# Altium schematic symbol library amirlib.SchLib: 361 symbols (part 1 of 2)
Pins are listed as number, name and electrical type; pins without a type are passive.

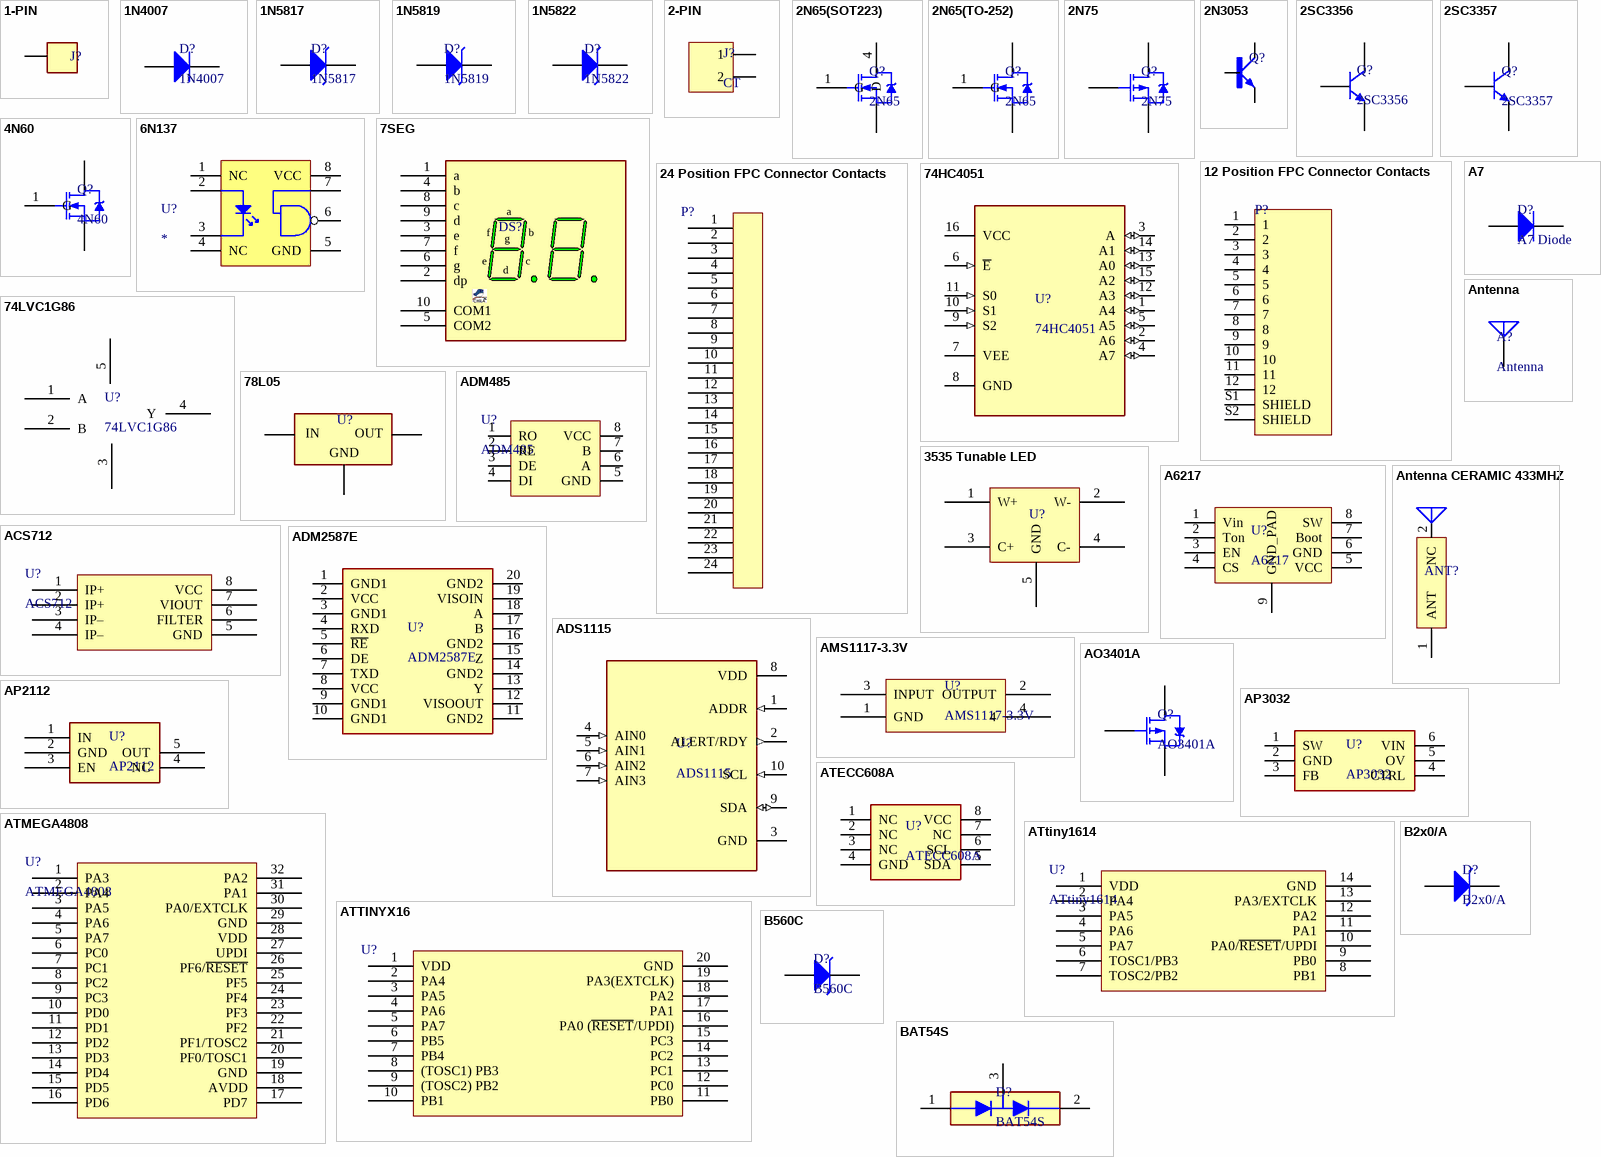
[diagram p0: symbols 1-PIN to BAT54S]

## 1-PIN
designator J?  (value not drawn)
footprint 1_PIN
footprint 1PIN_AC
footprint smart terminal
footprint SMDPAD2LAYER
pins: 1

## 1N4007
designator D?
footprint DO-41
footprint DO-214
footprint SMA
pins: 1 A, 2 K

## 1N5817
designator D?
Diode Schottky 20 V 1A
footprint DO-214
footprint SOD-123
pins: 1, 2

## 1N5819
designator D?
Diode Schottky 40 V 1A
footprint DO-214
footprint SOD-123
pins: 1, 2

## 1N5822
designator D?
Surface Mount Schottky Barrier Rectifier
footprint SMA
pins: 1, 2

## 2-PIN
designator J?, comment CT
footprint 2PIN
pins: 1, 2

## 2N65(SOT223)
designator Q?, comment 2N65
N CHANNEL POWER MOSFET
footprint SOT223
pins: 1 G, 2 D, 3 S, 4 D

## 2N65(TO-252)
designator Q?, comment 2N65
N CHANNEL POWER MOSFET
footprint TO-252
pins: 1 G, 2 D, 3 S

## 2N75
designator Q?
footprint TO-252
pins: 1 G, 2 D, 3 S

## 2N3053
designator Q?  (value not drawn)
footprint 2N3053
pins: 1 E, 2 B, 3 C

## 2SC3356
designator Q?
HIGH FREQUENCY LOW / NOISE AMPLIFIER
footprint SOT23
pins: 1 B, 2 E, 3 C

## 2SC3357
designator Q?
NPN SILICON RF TRANSISTOR
footprint SOT89-3
pins: 1 B, 2 C, 3 E

## 4N60
designator Q?
N CHANNEL POWER MOSFET
footprint TO-252
pins: 1 G, 2 D, 3 S

## 6N137
designator U?
High Speed OptocouplerN 10 MBd
footprint 6N137
pins: 1 NC, 2 A, 3 K, 4 NC, 5 GND, 6 Vo, 7 Ve, 8 VCC

## 7SEG
designator DS?  (value not drawn)
VALUE: 7SEG COMMON ANODE; SIZE: 0.36 Inch
footprint 7SEG (Footprint not found)
footprint 7Seg Up
pins: 1 a, 2 dp, 3 e, 4 b, 5 COM2, 6 g, 7 f, 8 c, 9 d, 10 COM1

## 12 Position FPC Connector Contacts
designator P?  (value not drawn)
footprint 12 position fpc connector
pins: 1, 2, 3, 4, 5, 6, 7, 8, 9, 10, 11, 12, S1 SHIELD, S2 SHIELD

## 24 Position FPC Connector Contacts
designator P?  (value not drawn)
footprint 24 Position FPC Connector Contacts(0.5mm)
pins: 1, 2, 3, 4, 5, 6, 7, 8, 9, 10, 11, 12, 13, 14, 15, 16, 17, 18, 19, 20, 21, 22, 23, 24

## 74HC4051
designator U?
Analog Multiplexer and Demultiplexer
footprint SOIC16
pins: 1 A4 (io), 2 A6 (io), 3 A (io), 4 A7 (io), 5 A5 (io), 6 ~{E} (in), 7 VEE (power), 8 GND, 9 S2 (in), 10 S1 (in), 11 S0 (in), 12 A3 (io), 13 A0 (io), 14 A1 (io), 15 A2 (io), 16 VCC (power)

## 74LVC1G86
designator U?
SINGLE 2 INPUT EXCLUSIVE OR GATE
footprint SOT-353
pins: 1 A, 2 B, 3 GND, 4 Y, 5 VCC

## 78L05
designator U?  (value not drawn)
VALUE: 78L05; SIZE: SOT-89-3
footprint SOT89-3
pins: 1 OUT, 2 GND, 3 IN

## 3535 Tunable LED
designator U?  (value not drawn)
footprint LEDDUAL
pins: 1 W+, 2 W-, 3 C+, 4 C-, 5 GND

## A7
designator D?, comment A7 Diode
footprint SOD-123FL
pins: 1 A, 2 K

## A6217
designator U?
Automotive-Grade, Constant-Current / PWM Dimmable Buck Regulator LED Driver
footprint ESOP-8
pins: 1 Vin, 2 Ton, 3 EN, 4 CS, 5 VCC, 6 GND, 7 Boot, 8 SW, 9 GND_PAD

## ACS712
designator U?
Fully Integrated, Hall Effect-Based Linear Current Sensor with 2.1 kVRMS Voltage Isolation and a Low-Resistance Current Conductor
footprint SOIC8
pins: 1 IP+, 2 IP+, 3 IP–, 4 IP–, 5 GND, 6 FILTER, 7 VIOUT, 8 VCC

## ADM485
designator U?
5V Low Power / EIA RS-485 Transceiver
footprint SOIC8
pins: 1 RO, 2 RE, 3 DE, 4 DI, 5 GND, 6 A, 7 B, 8 VCC

## ADM2587E
designator U?
Signal and Power Isolated RS-485 / Transceiver with ±15 kV ESD Protection
footprint SOIC20
pins: 1 GND1, 2 VCC, 3 GND1, 4 RXD, 5 ~{RE}, 6 DE, 7 TXD, 8 VCC, 9 GND1, 10 GND1, 11 GND2, 12 VISOOUT, 13 Y, 14 GND2, 15 Z, 16 GND2, 17 B, 18 A, 19 VISOIN, 20 GND2

## ADS1115
designator U?
ADS111x Ultra-Small, Low-Power, I2C-Compatible, 860-SPS, 16-Bit ADCs / With Internal Reference, Oscillator, and Programmable Comparator
footprint VSSOP-10
pins: 1 ADDR (in), 2 ALERT/RDY (out), 3 GND (power), 4 AIN0 (in), 5 AIN1 (in), 6 AIN2 (in), 7 AIN3 (in), 8 VDD (power), 9 SDA (io), 10 SCL (in)

## AMS1117-3.3V
designator U?
1A LOW DROPOUT VOLTAGE REGULATOR SOT-223; VALUE: AMS1117-3.3V; SIZE: SOT-223
footprint SOT223
pins: 1 GND, 2 OUTPUT, 3 INPUT, 4

## Antenna
designator A?
footprint ANT
footprint ANT 2
footprint ANT 3
footprint ANT 4
pins: 1 A

## Antenna CERAMIC 433MHZ
designator ANT?  (value not drawn)
footprint ANT CERAMIC 433MHZ
pins: 1 ANT, 2 NC

## AO3401A
designator Q?
30V P-Channel MOSFET; VALUE: IRLML 2803; SIZE: SOT-23
footprint SOT23
pins: 1 G, 2 S, 3 D

## AP2112
designator U?
600mA CMOS LDO REGULATOR WITH ENABLE
footprint SOT-753
pins: 1 IN, 2 GND, 3 EN, 4 NC, 5 OUT

## AP3032
designator U?
WHITE LED STEP-UP CONVERTER
footprint SOT23-6
pins: 1 SW, 2 GND, 3 FB, 4 CTRL, 5 OV, 6 VIN

## ATECC608A
designator U?
CryptoAuthentication™ Device
footprint SOP-8
pins: 1 NC, 2 NC, 3 NC, 4 GND, 5 SDA, 6 SCL, 7 NC, 8 VCC

## ATMEGA4808
designator U?
AVR MCU
footprint TQFP-32
footprint QFN-32(5X5MM)
pins: 1 PA3, 2 PA4, 3 PA5, 4 PA6, 5 PA7, 6 PC0, 7 PC1, 8 PC2, 9 PC3, 10 PD0, 11 PD1, 12 PD2, 13 PD3, 14 PD4, 15 PD5, 16 PD6, 17 PD7, 18 AVDD, 19 GND, 20 PF0/TOSC1, 21 PF1/TOSC2, 22 PF2, 23 PF3, 24 PF4, 25 PF5, 26 PF6/~{RESET}, 27 UPDI, 28 VDD, 29 GND, 30 PA0/EXTCLK, 31 PA1, 32 PA2

## ATtiny1614
designator U?
footprint SOP-14
pins: 1 VDD, 2 PA4, 3 PA5, 4 PA6, 5 PA7, 6 TOSC1/PB3, 7 TOSC2/PB2, 8 PB1, 9 PB0, 10 PA0/~{RESET}/UPDI, 11 PA1, 12 PA2, 13 PA3/EXTCLK, 14 GND

## ATTINYX16
designator U?, comment ATTINY816  (value not drawn)
footprint SOIC20
pins: 1 VDD, 2 PA4, 3 PA5, 4 PA6, 5 PA7, 6 PB5, 7 PB4, 8 (TOSC1) PB3, 9 (TOSC2) PB2, 10 PB1, 11 PB0, 12 PC0, 13 PC1, 14 PC2, 15 PC3, 16 PA0 (~{RESET}/UPDI), 17 PA1, 18 PA2, 19 PA3(EXTCLK), 20 GND

## B2x0/A
designator D?
2.0A SURFACE MOUNT SCHOTTKY BARRIER RECTIFIER
footprint DO-214
footprint SMA
pins: 1, 2

## B560C
designator D?
60V 5.0A SURFACE MOUNT SCHOTTKY BARRIER RECTIFIER
footprint SMC
pins: 1, 2

## BAT54S
designator D?
Small Signal Schottky Diodes,  Dual
footprint SOT23
pins: 1, 2, 3

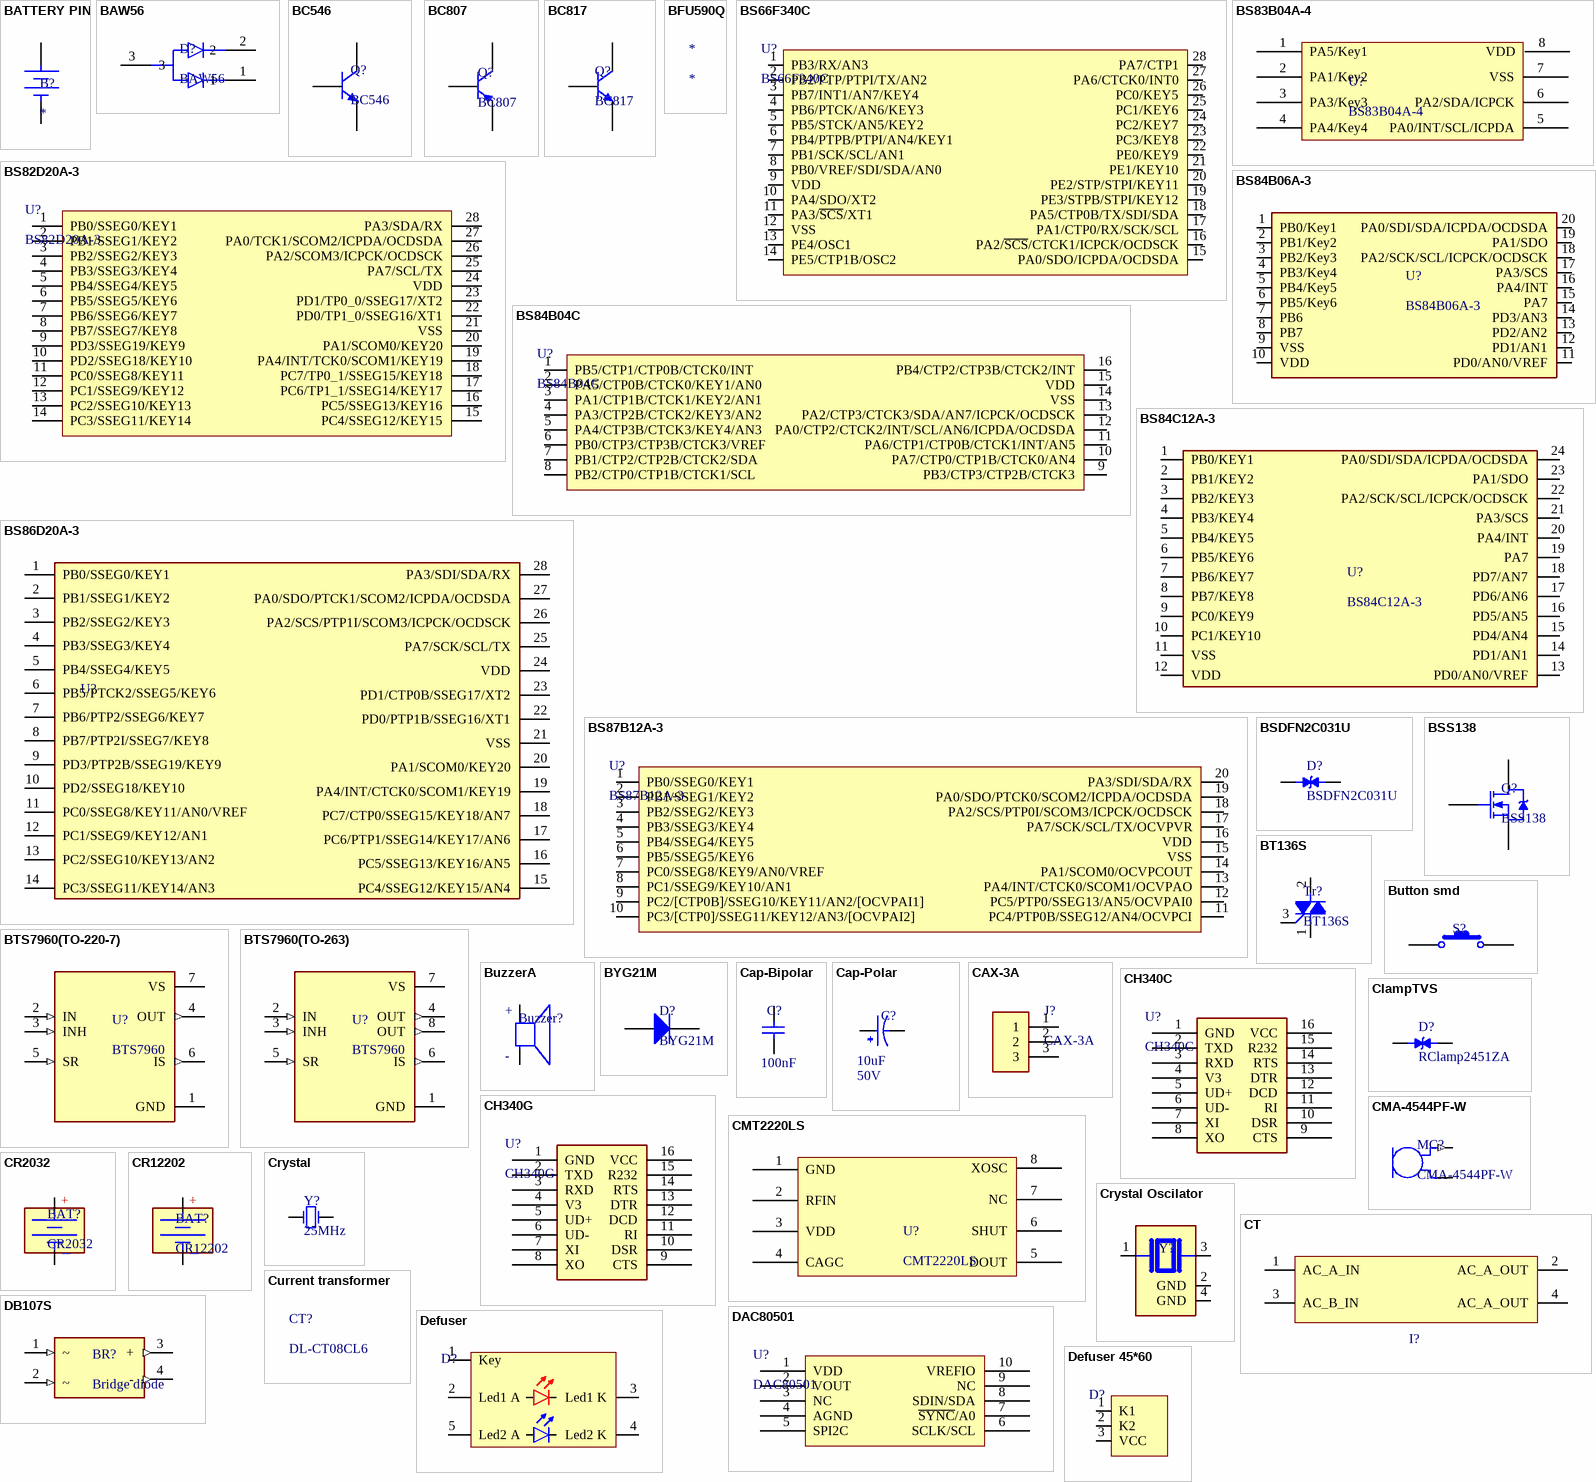
[diagram p1: symbols BATTERY PIN to Defuser 45*60]

## BATTERY PIN
designator B?
footprint BATTERY
pins: 1 +, 2

## BAW56
designator D?
Small Signal Switching Diode, Dual
footprint SOT23
pins: 1, 2, 3

## BC546
designator Q?
footprint TO-92
pins: 1 C, 2 B, 3 E

## BC807
designator Q?
footprint SOT23
pins: 1 B, 2 E, 3 C

## BC817
designator Q?
footprint SOT23
pins: 1 B, 2 E, 3 C

## BFU590Q
designator *

## BS66F340C
designator U?
Enhanced Touch A/D Flash MCU
footprint SSOP-28
pins: 1 PB3/RX/AN3, 2 PB2/PTP/PTPI/TX/AN2, 3 PB7/INT1/AN7/KEY4, 4 PB6/PTCK/AN6/KEY3, 5 PB5/STCK/AN5/KEY2, 6 PB4/PTPB/PTPI/AN4/KEY1, 7 PB1/SCK/SCL/AN1, 8 PB0/VREF/SDI/SDA/AN0, 9 VDD, 10 PA4/SDO/XT2, 11 PA3/~{SCS}/XT1, 12 VSS, 13 PE4/OSC1, 14 PE5/CTP1B/OSC2, 15 PA0/SDO/ICPDA/OCDSDA, 16 PA2/~{SCS}/CTCK1/ICPCK/OCDSCK, 17 PA1/CTP0/RX/SCK/SCL, 18 PA5/CTP0B/TX/SDI/SDA, 19 PE3/STPB/STPI/KEY12, 20 PE2/STP/STPI/KEY11, 21 PE1/KEY10, 22 PE0/KEY9, 23 PC3/KEY8, 24 PC2/KEY7, 25 PC1/KEY6, 26 PC0/KEY5, 27 PA6/CTCK0/INT0, 28 PA7/CTP1

## BS82D20A-3
designator U?
Touch Flash MCU with LED/LCD Driver
footprint SSOP-28
pins: 1 PB0/SSEG0/KEY1, 2 PB1/SSEG1/KEY2, 3 PB2/SSEG2/KEY3, 4 PB3/SSEG3/KEY4, 5 PB4/SSEG4/KEY5, 6 PB5/SSEG5/KEY6, 7 PB6/SSEG6/KEY7, 8 PB7/SSEG7/KEY8, 9 PD3/SSEG19/KEY9, 10 PD2/SSEG18/KEY10, 11 PC0/SSEG8/KEY11, 12 PC1/SSEG9/KEY12, 13 PC2/SSEG10/KEY13, 14 PC3/SSEG11/KEY14, 15 PC4/SSEG12/KEY15, 16 PC5/SSEG13/KEY16, 17 PC6/TP1_1/SSEG14/KEY17, 18 PC7/TP0_1/SSEG15/KEY18, 19 PA4/INT/TCK0/SCOM1/KEY19, 20 PA1/SCOM0/KEY20, 21 VSS, 22 PD0/TP1_0/SSEG16/XT1, 23 PD1/TP0_0/SSEG17/XT2, 24 VDD, 25 PA7/SCL/TX, 26 PA2/SCOM3/ICPCK/OCDSCK, 27 PA0/TCK1/SCOM2/ICPDA/OCDSDA, 28 PA3/SDA/RX

## BS83B04A-4
designator U?
Touch I/O Flash MCU; Value: BS83B04A-4; Size: SOP-8
footprint SOP-8
pins: 1 PA5/Key1, 2 PA1/Key2, 3 PA3/Key3, 4 PA4/Key4, 5 PA0/INT/SCL/ICPDA, 6 PA2/SDA/ICPCK, 7 VSS, 8 VDD

## BS84B04C
designator U?
Value: BS84B04C; Size: NSOP-16
footprint NSOP-16
pins: 1 PB5/CTP1/CTP0B/CTCK0/INT, 2 PA5/CTP0B/CTCK0/KEY1/AN0, 3 PA1/CTP1B/CTCK1/KEY2/AN1, 4 PA3/CTP2B/CTCK2/KEY3/AN2, 5 PA4/CTP3B/CTCK3/KEY4/AN3, 6 PB0/CTP3/CTP3B/CTCK3/VREF, 7 PB1/CTP2/CTP2B/CTCK2/SDA, 8 PB2/CTP0/CTP1B/CTCK1/SCL, 9 PB3/CTP3/CTP2B/CTCK3, 10 PA7/CTP0/CTP1B/CTCK0/AN4, 11 PA6/CTP1/CTP0B/CTCK1/INT/AN5, 12 PA0/CTP2/CTCK2/INT/SCL/AN6/ICPDA/OCDSDA, 13 PA2/CTP3/CTCK3/SDA/AN7/ICPCK/OCDSCK, 14 VSS, 15 VDD, 16 PB4/CTP2/CTP3B/CTCK2/INT

## BS84B06A-3
designator U?
Touch A/D Flash MCU
footprint SOP-20
pins: 1 PB0/Key1, 2 PB1/Key2, 3 PB2/Key3, 4 PB3/Key4, 5 PB4/Key5, 6 PB5/Key6, 7 PB6, 8 PB7, 9 VSS, 10 VDD, 11 PD0/AN0/VREF, 12 PD1/AN1, 13 PD2/AN2, 14 PD3/AN3, 15 PA7, 16 PA4/INT, 17 PA3/SCS, 18 PA2/SCK/SCL/ICPCK/OCDSCK, 19 PA1/SDO, 20 PA0/SDI/SDA/ICPDA/OCDSDA

## BS84C12A-3
designator U?
Touch A/D Flash MCU; Size: SSOP-24; Value: BS84C12A-3
footprint SSOP-24
pins: 1 PB0/KEY1, 2 PB1/KEY2, 3 PB2/KEY3, 4 PB3/KEY4, 5 PB4/KEY5, 6 PB5/KEY6, 7 PB6/KEY7, 8 PB7/KEY8, 9 PC0/KEY9, 10 PC1/KEY10, 11 VSS, 12 VDD, 13 PD0/AN0/VREF, 14 PD1/AN1, 15 PD4/AN4, 16 PD5/AN5, 17 PD6/AN6, 18 PD7/AN7, 19 PA7, 20 PA4/INT, 21 PA3/SCS, 22 PA2/SCK/SCL/ICPCK/OCDSCK, 23 PA1/SDO, 24 PA0/SDI/SDA/ICPDA/OCDSDA

## BS86D20A-3
designator U?  (value not drawn)
VALUE: BS86D20A-3; SIZE: 28SOP-A
footprint SOP-28
pins: 1 PB0/SSEG0/KEY1, 2 PB1/SSEG1/KEY2, 3 PB2/SSEG2/KEY3, 4 PB3/SSEG3/KEY4, 5 PB4/SSEG4/KEY5, 6 PB5/PTCK2/SSEG5/KEY6, 7 PB6/PTP2/SSEG6/KEY7, 8 PB7/PTP2I/SSEG7/KEY8, 9 PD3/PTP2B/SSEG19/KEY9, 10 PD2/SSEG18/KEY10, 11 PC0/SSEG8/KEY11/AN0/VREF, 12 PC1/SSEG9/KEY12/AN1, 13 PC2/SSEG10/KEY13/AN2, 14 PC3/SSEG11/KEY14/AN3, 15 PC4/SSEG12/KEY15/AN4, 16 PC5/SSEG13/KEY16/AN5, 17 PC6/PTP1/SSEG14/KEY17/AN6, 18 PC7/CTP0/SSEG15/KEY18/AN7, 19 PA4/INT/CTCK0/SCOM1/KEY19, 20 PA1/SCOM0/KEY20, 21 VSS, 22 PD0/PTP1B/SSEG16/XT1, 23 PD1/CTP0B/SSEG17/XT2, 24 VDD, 25 PA7/SCK/SCL/TX, 26 PA2/SCS/PTP1I/SCOM3/ICPCK/OCDSCK, 27 PA0/SDO/PTCK1/SCOM2/ICPDA/OCDSDA, 28 PA3/SDI/SDA/RX

## BS87B12A-3
designator U?
Touch A/D Flash MCU with OCVP 3KB; Value: BS87B12A-3; Size: NSOP-20
footprint NSOP-20
pins: 1 PB0/SSEG0/KEY1, 2 PB1/SSEG1/KEY2, 3 PB2/SSEG2/KEY3, 4 PB3/SSEG3/KEY4, 5 PB4/SSEG4/KEY5, 6 PB5/SSEG5/KEY6, 7 PC0/SSEG8/KEY9/AN0/VREF, 8 PC1/SSEG9/KEY10/AN1, 9 PC2/[CTP0B]/SSEG10/KEY11/AN2/[OCVPAI1], 10 PC3/[CTP0]/SSEG11/KEY12/AN3/[OCVPAI2], 11 PC4/PTP0B/SSEG12/AN4/OCVPCI, 12 PC5/PTP0/SSEG13/AN5/OCVPAI0, 13 PA4/INT/CTCK0/SCOM1/OCVPAO, 14 PA1/SCOM0/OCVPCOUT, 15 VSS, 16 VDD, 17 PA7/SCK/SCL/TX/OCVPVR, 18 PA2/SCS/PTP0I/SCOM3/ICPCK/OCDSCK, 19 PA0/SDO/PTCK0/SCOM2/ICPDA/OCDSDA, 20 PA3/SDI/SDA/RX
1 alternate drawing of the same symbol

## BSDFN2C031U
designator D?
ESD  Protection  Diode
footprint DFN1006
pins: 1, 2

## BSS138
designator Q?
N-Channel Logic Level / Enhancement Mode Field / Effect Transistor
footprint SOT23
pins: 1 G, 2 S, 3 D

## BT136S
designator Tr?
Triac, 600V, 4A, TO-220
footprint TO-252
pins: 1 T1, 2 T2, 3 G

## BTS7960(TO-220-7)
designator U?, comment BTS7960
High Current PN Half Bridge
footprint TO-220-7
footprint TO-220-7-HS
pins: 1 GND (power), 2 IN (in), 3 INH (in), 4 OUT (out), 5 SR (in), 6 IS (out), 7 VS (power)

## BTS7960(TO-263)
designator U?, comment BTS7960
High Current PN Half Bridge
footprint TO-263
pins: 1 GND (power), 2 IN (in), 3 INH (in), 4 OUT (out), 5 SR (in), 6 IS (out), 7 VS (power), 8 OUT (out)

## Button smd
designator S?, comment Button smd 2pin  (value not drawn)
VALUE: button smd 2pin; SIZE: 6x3,5mm
footprint Button 2pin
footprint SMD Tactile Button
footprint PTS526
footprint PTS641
footprint BUTTON SMD 6X6X4.5MM
footprint TL1015
footprint Button SMD (6.2x6.3x2.5mm)
pins: 1, 2

## BuzzerA
designator Buzzer?  (value not drawn)
VALUE: Buzzer; SIZE: *
footprint BuzzerA (Footprint not found)
footprint BUZZERL
footprint piezobuzzer
footprint piezobuzzer(9x5mm)
footprint PiezoBuzzer(SMD-8030B)
footprint SMD-8530
pins: 1 POS, 2 NEG
text: +; -

## BYG21M
designator D?
Fast Avalanche SMD Rectifier
footprint DO-214
footprint SMA
pins: 1 A, 2 K

## Cap-Bipolar
designator C?, comment 100nF
Voltage: 50; SIZE: SMD 0805; VALUE: 100nF
footprint Cap MKT (Footprint not found)
footprint CAP-MKT470nF
footprint SMD_CAP_1206
footprint cap-mkt1uf
footprint capmkt-17x14x8
footprint SMD_CAP_0603
footprint SMD_CAP_0402
footprint CAP-MKT82nF(PITCH:10mm)
footprint SMD_CAP_1210
footprint SMD_CAP_0805
pins: 1, 2

## Cap-Polar
designator C?, comment Voltage: 50V  (hidden comment: 10uF)
Value: 10uF
footprint Electrolytic Capacitors smd 6x8mm
footprint Electrolytic Capacitors SMD 8x10mm
footprint Cap elec-5x11mm
footprint dip-04
footprint CAP-3216
footprint Electrolytic Capacitors SMD 5x5.4mm
footprint CAP_D
footprint CAP_C
footprint CAP_B
footprint Electrolytic Capacitors SMD 6.3X5.4mm
footprint Electrolytic Capacitors SMD 10x10mm (Footprint not found)
footprint Electrolytic Capacitors SMD 12.5X13.5mm
pins: 1, 2

## CAX-3A
designator J?
footprint CAX-1.25-3A
pins: 1, 2, 3

## CH340C
designator U?
USB to Serial Port Chip
footprint SOP-16
pins: 1 GND, 2 TXD, 3 RXD, 4 V3, 5 UD+, 6 UD-, 7 XI, 8 XO, 9 CTS, 10 DSR, 11 RI, 12 DCD, 13 DTR, 14 RTS, 15 R232, 16 VCC

## CH340G
designator U?
USB to Serial Port Chip
footprint SOP-16
pins: 1 GND, 2 TXD, 3 RXD, 4 V3, 5 UD+, 6 UD-, 7 XI, 8 XO, 9 CTS, 10 DSR, 11 RI, 12 DCD, 13 DTR, 14 RTS, 15 R232, 16 VCC

## ClampTVS
designator D?, comment RClamp2451ZA
Ultra-Small RailClamp® 1-Line, 24V ESD Protection
footprint DFN-2
pins: 1, 2

## CMA-4544PF-W
designator MC?
electret condenser microphone
footprint CMA-4544PF-W (Footprint not found)
pins: 1 OUT (out), 2 GND (power)

## CMT2220LS
designator U?
300 - 480 MHz OOK Receiver
footprint SOP-8
pins: 1 GND, 2 RFIN, 3 VDD, 4 CAGC, 5 DOUT, 6 SHUT, 7 NC, 8 XOSC

## CR2032
designator BAT?
footprint CR2032
pins: 1, 2
text: +; _

## CR12202
designator BAT?
footprint CR12202-Holder
pins: 1, 2
text: +; _

## Crystal
designator Y?, comment 25MHz
footprint Xtal-SMD
pins: 1 OSC1, 2 OSC2

## Crystal Oscilator
designator Y?, comment Crystal ±20ppm  (value not drawn)
footprint 4-SMD
footprint 4-SMD(3225)
footprint SMD4-1(RESONATOR)
pins: 1 XIN, 2 GND (power), 3 XOUT, 4 GND (power)

## CT
designator I?, comment INDUCTOR  (value not drawn)
footprint CT
pins: 1 AC_A_IN, 2 AC_A_OUT, 3 AC_B_IN, 4 AC_A_OUT

## Current transformer
designator CT?, comment DL-CT08CL6
footprint CT - 3DMODEL

## DAC80501
designator U?
Voltage-Output DACs / With Precision Internal Reference
footprint VSSOP-10
pins: 1 VDD, 2 VOUT, 3 NC, 4 AGND, 5 SPI2C, 6 SCLK/SCL, 7 ~{SYNC}/A0, 8 SDIN/SDA, 9 NC, 10 VREFIO

## DB107S
designator BR?, comment Bridge diode
footprint DB107S
pins: 1 ~ (in), 2 ~ (in), 3 + (out), 4 - (out)

## Defuser
designator D?
Defuser for touch key; SIZE: 21x16x2.8mm
footprint Defuser
pins: 1 Key, 2 Led1 A, 3 Led1 K, 4 Led2 K, 5 Led2 A

## Defuser 45*60
designator D?
footprint Defuser 45*60
pins: 1 K1, 2 K2, 3 VCC

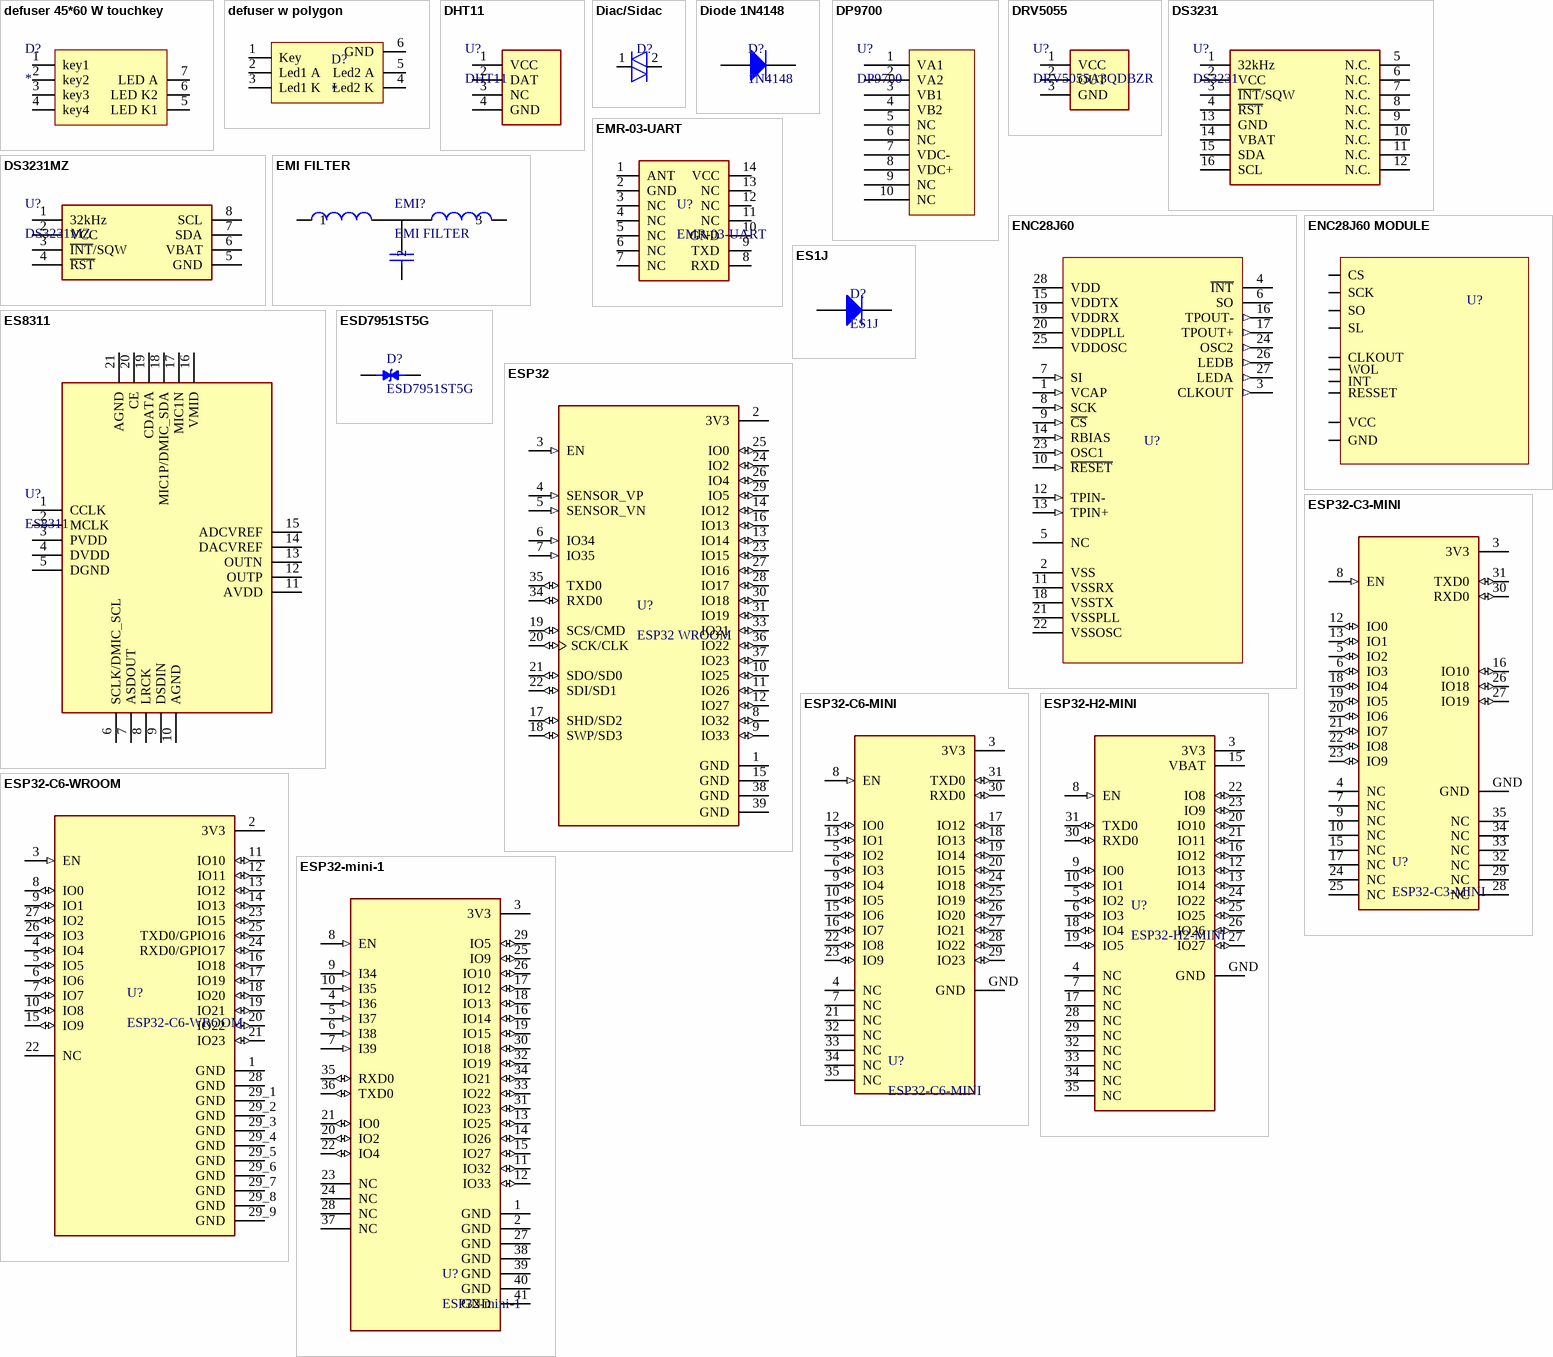
[diagram p2: symbols defuser 45*60 W touchkey to ESP32-mini-1]

## defuser 45*60 W touchkey
designator D?
footprint defuser 45*60 W touchkey
pins: 1 key1, 2 key2, 3 key3, 4 key4, 5 LED K1, 6 LED K2, 7 LED A

## defuser w polygon
designator D?
footprint defuser w polygon
pins: 1 Key, 2 Led1 A, 3 Led1 K, 4 Led2 K, 5 Led2 A, 6 GND

## DHT11
designator U?
footprint DHT11
pins: 1 VCC, 2 DAT, 3 NC, 4 GND

## Diac/Sidac
designator D?  (value not drawn)
Diac/Sidac Thyristor 30 ~ 34V DO-35; SIZE: DO-35; VALUE: Diac/Sidac
footprint Diac/Sidac
pins: 1, 2

## Diode 1N4148
designator D?, comment 1N4148
High Conductance Fast Diode; Value: 1N4148; Size: MiniMelf (SOD-80)
footprint MINIMELF
footprint SOD-523
footprint SOD-123FL
footprint SOD-123
pins: 1 A, 2 K

## DP9700
designator U?
POE PD Module
footprint DP9700 (Footprint not found)
pins: 1 VA1, 2 VA2, 3 VB1, 4 VB2, 5 NC, 6 NC, 7 VDC-, 8 VDC+, 9 NC, 10 NC

## DRV5055
designator U?, comment DRV5055A3QDBZR
DRV5055 Ratiometric Linear Hall Effect Sensor
footprint SOT23
pins: 1 VCC, 2 OUT, 3 GND

## DS3231
designator U?
Extremely Accurate I2C-Integrated / RTC/TCXO/Crystal
footprint SOIC16W
pins: 1 32kHz, 2 VCC, 3 ~{INT}/SQW, 4 ~{RST}, 5 N.C., 6 N.C., 7 N.C., 8 N.C., 9 N.C., 10 N.C., 11 N.C., 12 N.C., 13 GND, 14 VBAT, 15 SDA, 16 SCL

## DS3231MZ
designator U?
±5ppm, I2C Real-Time Clock
footprint SOP-8
pins: 1 32kHz, 2 VCC, 3 ~{INT}/SQW, 4 ~{RST}, 5 GND, 6 VBAT, 7 SDA, 8 SCL

## EMI FILTER
designator EMI?
footprint HEADER 3PIN
pins: 1, 2, 3

## EMR-03-UART
designator U?
footprint EMR-03
pins: 1 ANT, 2 GND, 3 NC, 4 NC, 5 NC, 6 NC, 7 NC, 8 RXD, 9 TXD, 10 GND, 11 NC, 12 NC, 13 NC, 14 VCC

## ENC28J60
designator U?  (value not drawn)
Ethernet Controller 10 Base-T PHY SPI Interface
footprint SSOP-28
footprint SSOP-28(200MIL)
footprint SOIC28
pins: 1 VCAP (in), 2 VSS (power), 3 CLKOUT (out), 4 ~{INT}, 5 NC, 6 SO, 7 SI (in), 8 SCK (in), 9 ~{CS} (in), 10 ~{RESET} (in), 11 VSSRX (power), 12 TPIN- (in), 13 TPIN+ (in), 14 RBIAS (in), 15 VDDTX (power), 16 TPOUT- (out), 17 TPOUT+ (out), 18 VSSTX (power), 19 VDDRX (power), 20 VDDPLL (power), 21 VSSPLL (power), 22 VSSOSC (power), 23 OSC1 (in), 24 OSC2 (out), 25 VDDOSC (power), 26 LEDB (out), 27 LEDA (out), 28 VDD (power)

## ENC28J60 MODULE
designator U?  (value not drawn)
footprint ENC28J60 MODULE
pins: 1 CLKOUT, 2 INT, 3 WOL, 4 SO, 5 SL, 6 SCK, 7 CS, 8 RESSET, 9 VCC, 10 GND

## ES1J
designator D?
footprint SMA
pins: 1 K, 2 A

## ES8311
designator U?
Low Power Mono Audio CODEC
footprint QFN-20(3X3mm)
pins: 1 CCLK, 2 MCLK, 3 PVDD, 4 DVDD, 5 DGND, 6 SCLK/DMIC_SCL, 7 ASDOUT, 8 LRCK, 9 DSDIN, 10 AGND, 11 AVDD, 12 OUTP, 13 OUTN, 14 DACVREF, 15 ADCVREF, 16 VMID, 17 MIC1N, 18 MIC1P/DMIC_SDA, 19 CDATA, 20 CE, 21 AGND

## ESD7951ST5G
designator D?
ESD Protection Diode / Ultra−Low Capacitance
footprint SOD-923
pins: 1, 2

## ESP32
designator U?, comment ESP32 WROOM
footprint ESP32
footprint ESP32_U
pins: 1 GND (power), 2 3V3 (power), 3 EN (in), 4 SENSOR_VP (in), 5 SENSOR_VN (in), 6 IO34 (in), 7 IO35 (in), 8 IO32 (io), 9 IO33 (io), 10 IO25 (io), 11 IO26 (io), 12 IO27 (io), 13 IO14 (io), 14 IO12 (io), 15 GND (power), 16 IO13 (io), 17 SHD/SD2 (io), 18 SWP/SD3 (io), 19 SCS/CMD (io), 20 SCK/CLK (io), 21 SDO/SD0 (io), 22 SDI/SD1 (io), 23 IO15 (io), 24 IO2 (io), 25 IO0 (io), 26 IO4 (io), 27 IO16 (io), 28 IO17 (io), 29 IO5 (io), 30 IO18 (io), 31 IO19 (io), 33 IO21 (io), 34 RXD0 (io), 35 TXD0 (io), 36 IO22 (io), 37 IO23 (io), 38 GND (power), 39 GND

## ESP32-C3-MINI
designator U?
Ultra-Low-Power SoC with RISC-V Single-Core CPU2.4 GHz Wi-Fi (802.11b/g/n) and Bluetooth®5 (LE)Optional flash in the chip’s package up to 8 MB
footprint ESP32-C3-MINI-1
pins: 3 3V3 (power), 4 NC, 5 IO2 (io), 6 IO3 (io), 7 NC, 8 EN (in), 9 NC, 10 NC, 12 IO0 (io), 13 IO1 (io), 15 NC, 16 IO10 (io), 17 NC, 18 IO4 (io), 19 IO5 (io), 20 IO6 (io), 21 IO7 (io), 22 IO8 (io), 23 IO9 (io), 24 NC, 25 NC, 26 IO18 (io), 27 IO19 (io), 28 NC, 29 NC, 30 RXD0 (io), 31 TXD0 (io), 32 NC, 33 NC, 34 NC, 35 NC, GND (power)

## ESP32-C6-MINI
designator U?
Module that supports 2.4 GHz Wi-Fi 6 (802.11ax), Bluetooth® 5 (LE), Zigbee and / Thread (802.15.4) / Built around ESP32-C6 series of SoCs, 32-bit RISC-V single-core microprocessor / Flash up to 8 MB in chip package / 22 GPIOs, rich set of peripherals / On-board PCB antenna or external antenna connector
footprint ESP32-C6-MINI-1 (Footprint not found)
pins: 3 3V3 (power), 4 NC, 5 IO2 (io), 6 IO3 (io), 7 NC, 8 EN (in), 9 IO4 (io), 10 IO5 (io), 12 IO0 (io), 13 IO1 (io), 15 IO6 (io), 16 IO7 (io), 17 IO12 (io), 18 IO13 (io), 19 IO14 (io), 20 IO15 (io), 21 NC, 22 IO8 (io), 23 IO9 (io), 24 IO18 (io), 25 IO19 (io), 26 IO20 (io), 27 IO21 (io), 28 IO22 (io), 29 IO23 (io), 30 RXD0 (io), 31 TXD0 (io), 32 NC, 33 NC, 34 NC, 35 NC, GND (power)

## ESP32-C6-WROOM
designator U?
Module that supports 2.4 GHz Wi-Fi 6 (802.11ax), Bluetooth® 5 (LE), Zigbee and / Thread (802.15.4) / Built around ESP32-C6 series of SoCs, 32-bit RISC-V single-core microprocessor / Flash up to 8 MB / 23 GPIOs, rich set of peripherals / On-board PCB antenna or external antenna connector
footprint ESP32-C6-WROOM-1
pins: 1 GND (power), 2 3V3 (power), 3 EN (in), 4 IO4 (io), 5 IO5 (io), 6 IO6 (io), 7 IO7 (io), 8 IO0 (io), 9 IO1 (io), 10 IO8 (io), 11 IO10 (io), 12 IO11 (io), 13 IO12 (io), 14 IO13 (io), 15 IO9 (io), 16 IO18 (io), 17 IO19 (io), 18 IO20 (io), 19 IO21 (io), 20 IO22 (io), 21 IO23 (io), 22 NC, 23 IO15 (io), 24 RXD0/GPIO17 (io), 25 TXD0/GPIO16 (io), 26 IO3 (io), 27 IO2 (io), 28 GND (power), 29_1 GND (power), 29_2 GND (power), 29_3 GND (power), 29_4 GND (power), 29_5 GND (power), 29_6 GND (power), 29_7 GND (power), 29_8 GND (power), 29_9 GND (power)

## ESP32-H2-MINI
designator U?
802.15.4, Bluetooth Bluetooth v5.3, ZigbeeÂ® Transceiver Module 2.4GHz Integrated, Trace Surface Mount
footprint ESP32-H2-MINI
pins: 3 3V3 (power), 4 NC, 5 IO2 (io), 6 IO3 (io), 7 NC, 8 EN (in), 9 IO0 (io), 10 IO1 (io), 12 IO13 (io), 13 IO14 (io), 15 VBAT (power), 16 IO12 (io), 17 NC, 18 IO4 (io), 19 IO5 (io), 20 IO10 (io), 21 IO11 (io), 22 IO8 (io), 23 IO9 (io), 24 IO22 (io), 25 IO25 (io), 26 IO26 (io), 27 IO27 (io), 28 NC, 29 NC, 30 RXD0 (io), 31 TXD0 (io), 32 NC, 33 NC, 34 NC, 35 NC, GND (power)

## ESP32-mini-1
designator U?
footprint esp32-mini-1
footprint ESP32-MINI-1U
pins: 1 GND (power), 2 GND (power), 3 3V3 (power), 4 I36 (in), 5 I37 (in), 6 I38 (in), 7 I39 (in), 8 EN (in), 9 I34 (in), 10 I35 (in), 11 IO32 (io), 12 IO33 (io), 13 IO25 (io), 14 IO26 (io), 15 IO27 (io), 16 IO14 (io), 17 IO12 (io), 18 IO13 (io), 19 IO15 (io), 20 IO2 (io), 21 IO0 (io), 22 IO4 (io), 23 NC, 24 NC, 25 IO9 (io), 26 IO10 (io), 27 GND (power), 28 NC, 29 IO5 (io), 30 IO18 (io), 31 IO23 (io), 32 IO19 (io), 33 IO22 (io), 34 IO21 (io), 35 RXD0 (io), 36 TXD0 (io), 37 NC, 38 GND (power), 39 GND (power), 40 GND (power), 41 GND (power)

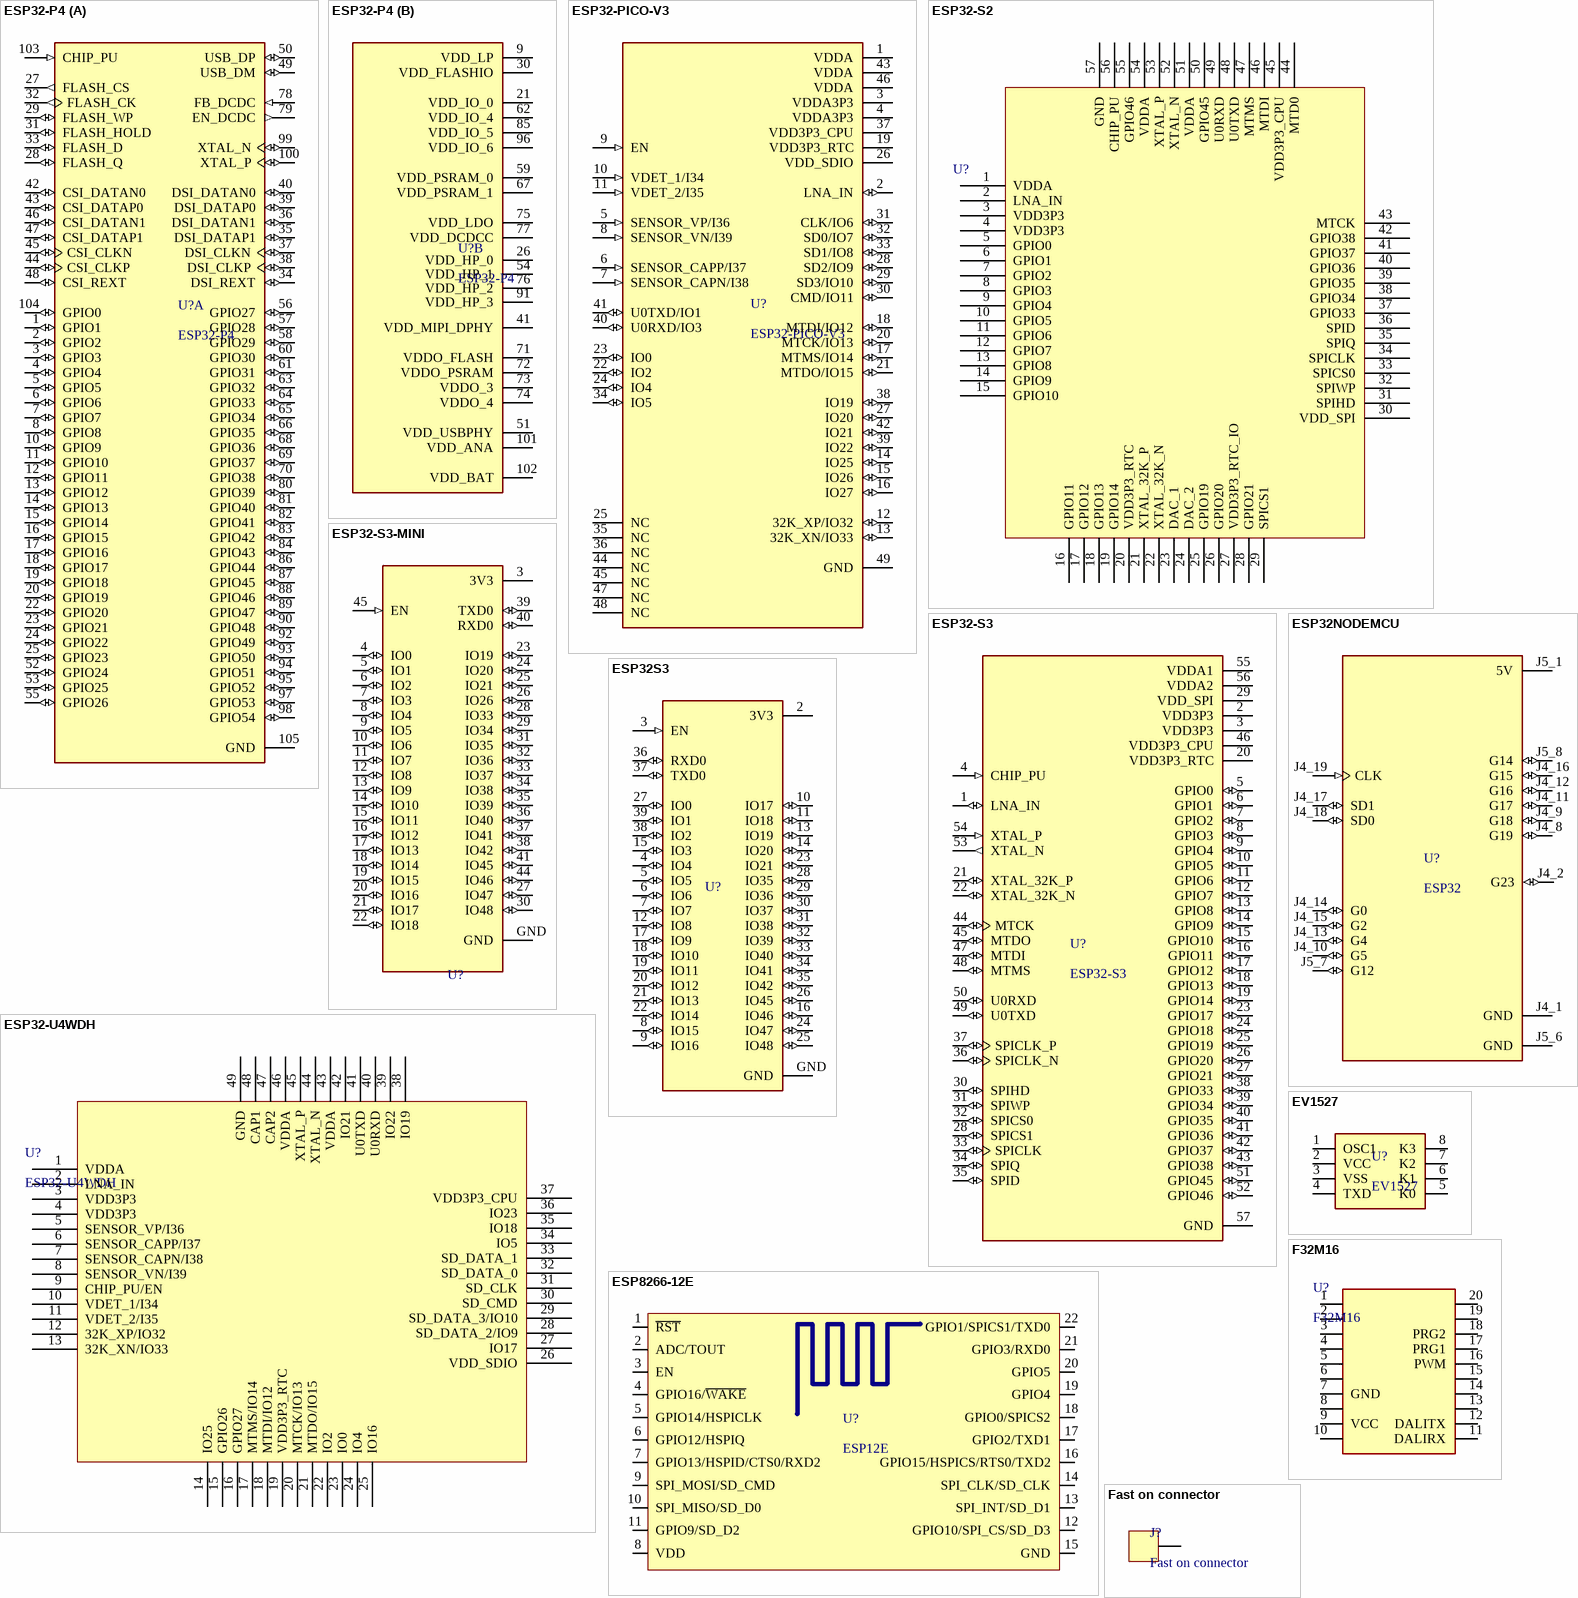
[diagram p3: symbols ESP32-P4 to Fast on connector]

## ESP32-P4
designator U?
MCU with one RISC-V 32-bit dual-core high-performance microprocessor and one single-core / low-power microprocessor / Powerful image and voice processing capability / 16 MB or 32 MB PSRAM in the chip’s package / 55 GPIOs, rich set of peripherals
footprint QFN-104(10X10mm)
part A pins: 1 GPIO1 (io), 2 GPIO2 (io), 3 GPIO3 (io), 4 GPIO4 (io), 5 GPIO5 (io), 6 GPIO6 (io), 7 GPIO7 (io), 8 GPIO8 (io), 10 GPIO9 (io), 11 GPIO10 (io), 12 GPIO11 (io), 13 GPIO12 (io), 14 GPIO13 (io), 15 GPIO14 (io), 16 GPIO15 (io), 17 GPIO16 (io), 18 GPIO17 (io), 19 GPIO18 (io), 20 GPIO19 (io), 22 GPIO20 (io), 23 GPIO21 (io), 24 GPIO22 (io), 25 GPIO23 (io), 27 FLASH_CS (out), 28 FLASH_Q (io), 29 FLASH_WP (io), 31 FLASH_HOLD (io), 32 FLASH_CK (out), 33 FLASH_D (io), 34 DSI_REXT (io), 35 DSI_DATAP1 (io), 36 DSI_DATAN1 (io), 37 DSI_CLKN (io), 38 DSI_CLKP (io), 39 DSI_DATAP0 (io), 40 DSI_DATAN0 (io), 42 CSI_DATAN0 (io), 43 CSI_DATAP0 (io), 44 CSI_CLKP (io), 45 CSI_CLKN (io), 46 CSI_DATAN1 (io), 47 CSI_DATAP1 (io), 48 CSI_REXT (io), 49 USB_DM (io), 50 USB_DP (io), 52 GPIO24 (io), 53 GPIO25 (io), 55 GPIO26 (io), 56 GPIO27 (io), 57 GPIO28 (io), 58 GPIO29 (io), 60 GPIO30 (io), 61 GPIO31 (io), 63 GPIO32 (io), 64 GPIO33 (io), 65 GPIO34 (io), 66 GPIO35 (io), 68 GPIO36 (io), 69 GPIO37 (io), 70 GPIO38 (io), 78 FB_DCDC (in), 79 EN_DCDC (out), 80 GPIO39 (io), 81 GPIO40 (io), 82 GPIO41 (io), 83 GPIO42 (io), 84 GPIO43 (io), 86 GPIO44 (io), 87 GPIO45 (io), 88 GPIO46 (io), 89 GPIO47 (io), 90 GPIO48 (io), 92 GPIO49 (io), 93 GPIO50 (io), 94 GPIO51 (io), 95 GPIO52 (io), 97 GPIO53 (io), 98 GPIO54 (io), 99 XTAL_N (io), 100 XTAL_P (io), 103 CHIP_PU (in), 104 GPIO0 (io), 105 GND (power)
part B pins: 9 VDD_LP (power), 21 VDD_IO_0 (power), 26 VDD_HP_0 (power), 30 VDD_FLASHIO (power), 41 VDD_MIPI_DPHY (power), 51 VDD_USBPHY (power), 54 VDD_HP_1 (power), 59 VDD_PSRAM_0 (power), 62 VDD_IO_4 (power), 67 VDD_PSRAM_1 (power), 71 VDDO_FLASH (power), 72 VDDO_PSRAM (power), 73 VDDO_3 (power), 74 VDDO_4 (power), 75 VDD_LDO (power), 76 VDD_HP_2 (power), 77 VDD_DCDCC (power), 85 VDD_IO_5 (power), 91 VDD_HP_3 (power), 96 VDD_IO_6 (power), 101 VDD_ANA (power), 102 VDD_BAT (power)

## ESP32-PICO-V3
designator U?
2.4 GHz WiFi / + Bluetooth® + Bluetooth LE SiP / Integrating all peripheral components in one single package
footprint LGA-48(7X7mm)
pins: 1 VDDA (power), 2 LNA_IN (io), 3 VDDA3P3 (power), 4 VDDA3P3 (power), 5 SENSOR_VP/I36 (in), 6 SENSOR_CAPP/I37 (in), 7 SENSOR_CAPN/I38 (in), 8 SENSOR_VN/I39 (in), 9 EN (in), 10 VDET_1/I34 (in), 11 VDET_2/I35 (in), 12 32K_XP/IO32 (io), 13 32K_XN/IO33 (io), 14 IO25 (io), 15 IO26 (io), 16 IO27 (io), 17 MTMS/IO14 (io), 18 MTDI/IO12 (io), 19 VDD3P3_RTC (power), 20 MTCK/IO13 (io), 21 MTDO/IO15 (io), 22 IO2 (io), 23 IO0 (io), 24 IO4 (io), 25 NC, 26 VDD_SDIO (power), 27 IO20 (io), 28 SD2/IO9 (io), 29 SD3/IO10 (io), 30 CMD/IO11 (io), 31 CLK/IO6 (io), 32 SD0/IO7 (io), 33 SD1/IO8 (io), 34 IO5 (io), 35 NC, 36 NC, 37 VDD3P3_CPU (power), 38 IO19 (io), 39 IO22 (io), 40 U0RXD/IO3 (io), 41 U0TXD/IO1 (io), 42 IO21 (io), 43 VDDA (power), 44 NC, 45 NC, 46 VDDA (power), 47 NC, 48 NC, 49 GND (power)

## ESP32-S2
designator U?  (value not drawn)
SoC with Xtensa® SingleCore / 32bit / LX7 Microprocessor
footprint ESP32-S2
pins: 1 VDDA, 2 LNA_IN, 3 VDD3P3, 4 VDD3P3, 5 GPIO0, 6 GPIO1, 7 GPIO2, 8 GPIO3, 9 GPIO4, 10 GPIO5, 11 GPIO6, 12 GPIO7, 13 GPIO8, 14 GPIO9, 15 GPIO10, 16 GPIO11, 17 GPIO12, 18 GPIO13, 19 GPIO14, 20 VDD3P3_RTC, 21 XTAL_32K_P, 22 XTAL_32K_N, 23 DAC_1, 24 DAC_2, 25 GPIO19, 26 GPIO20, 27 VDD3P3_RTC_IO, 28 GPIO21, 29 SPICS1, 30 VDD_SPI, 31 SPIHD, 32 SPIWP, 33 SPICS0, 34 SPICLK, 35 SPIQ, 36 SPID, 37 GPIO33, 38 GPIO34, 39 GPIO35, 40 GPIO36, 41 GPIO37, 42 GPIO38, 43 MTCK, 44 MTD0, 45 VDD3P3_CPU, 46 MTDI, 47 MTMS, 48 U0TXD, 49 U0RXD, 50 GPIO45, 51 VDDA, 52 XTAL_N, 53 XTAL_P, 54 VDDA, 55 GPIO46, 56 CHIP_PU, 57 GND

## ESP32-S3
designator U?
IC RF TxRx + MCU Bluetooth, WiFi 802.11b/g/n, Bluetooth v5.0 2.412GHz ~ 2.484GHz 56-VFQFN Exposed Pad
footprint ESP32-S3
pins: 1 LNA_IN (io), 2 VDD3P3 (power), 3 VDD3P3 (power), 4 CHIP_PU (in), 5 GPIO0 (io), 6 GPIO1 (io), 7 GPIO2 (io), 8 GPIO3 (io), 9 GPIO4 (io), 10 GPIO5 (io), 11 GPIO6 (io), 12 GPIO7 (io), 13 GPIO8 (io), 14 GPIO9 (io), 15 GPIO10 (io), 16 GPIO11 (io), 17 GPIO12 (io), 18 GPIO13 (io), 19 GPIO14 (io), 20 VDD3P3_RTC (power), 21 XTAL_32K_P (io), 22 XTAL_32K_N (io), 23 GPIO17 (io), 24 GPIO18 (io), 25 GPIO19 (io), 26 GPIO20 (io), 27 GPIO21 (io), 28 SPICS1 (io), 29 VDD_SPI (power), 30 SPIHD (io), 31 SPIWP (io), 32 SPICS0 (io), 33 SPICLK (io), 34 SPIQ (io), 35 SPID (io), 36 SPICLK_N (io), 37 SPICLK_P (io), 38 GPIO33 (io), 39 GPIO34 (io), 40 GPIO35 (io), 41 GPIO36 (io), 42 GPIO37 (io), 43 GPIO38 (io), 44 MTCK (io), 45 MTDO (io), 46 VDD3P3_CPU (power), 47 MTDI (io), 48 MTMS (io), 49 U0TXD (io), 50 U0RXD (io), 51 GPIO45 (io), 52 GPIO46 (io), 53 XTAL_N (out), 54 XTAL_P (in), 55 VDDA1 (power), 56 VDDA2 (power), 57 GND (power)

## ESP32-S3-MINI
designator U?  (value not drawn)
footprint ESP32-S3-MINI
footprint ESP32-S3-MINI-1U
pins: 3 3V3 (power), 4 IO0 (io), 5 IO1 (io), 6 IO2 (io), 7 IO3 (io), 8 IO4 (io), 9 IO5 (io), 10 IO6 (io), 11 IO7 (io), 12 IO8 (io), 13 IO9 (io), 14 IO10 (io), 15 IO11 (io), 16 IO12 (io), 17 IO13 (io), 18 IO14 (io), 19 IO15 (io), 20 IO16 (io), 21 IO17 (io), 22 IO18 (io), 23 IO19 (io), 24 IO20 (io), 25 IO21 (io), 26 IO26 (io), 27 IO47 (io), 28 IO33 (io), 29 IO34 (io), 30 IO48 (io), 31 IO35 (io), 32 IO36 (io), 33 IO37 (io), 34 IO38 (io), 35 IO39 (io), 36 IO40 (io), 37 IO41 (io), 38 IO42 (io), 39 TXD0 (io), 40 RXD0 (io), 41 IO45 (io), 44 IO46 (io), 45 EN (in), GND (power)

## ESP32-U4WDH
designator U?
2.4 GHz Wi-Fi + Bluetooth® + Bluetooth LE SoC
footprint QFN-48(5X5mm)
pins: 1 VDDA, 2 LNA_IN, 3 VDD3P3, 4 VDD3P3, 5 SENSOR_VP/I36, 6 SENSOR_CAPP/I37, 7 SENSOR_CAPN/I38, 8 SENSOR_VN/I39, 9 CHIP_PU/EN, 10 VDET_1/I34, 11 VDET_2/I35, 12 32K_XP/IO32, 13 32K_XN/IO33, 14 IO25, 15 GPIO26, 16 GPIO27, 17 MTMS/IO14, 18 MTDI/IO12, 19 VDD3P3_RTC, 20 MTCK/IO13, 21 MTDO/IO15, 22 IO2, 23 IO0, 24 IO4, 25 IO16, 26 VDD_SDIO, 27 IO17, 28 SD_DATA_2/IO9, 29 SD_DATA_3/IO10, 30 SD_CMD, 31 SD_CLK, 32 SD_DATA_0, 33 SD_DATA_1, 34 IO5, 35 IO18, 36 IO23, 37 VDD3P3_CPU, 38 IO19, 39 IO22, 40 U0RXD, 41 U0TXD, 42 IO21, 43 VDDA, 44 XTAL_N, 45 XTAL_P, 46 VDDA, 47 CAP2, 48 CAP1, 49 GND

## ESP32NODEMCU
designator U?, comment ESP32
footprint ESP32NODEMCU
pins: J4_1 GND (power), J4_2 G23 (io), J4_8 G19 (io), J4_9 G18 (io), J4_10 G5 (io), J4_11 G17 (io), J4_12 G16 (io), J4_13 G4 (io), J4_14 G0 (io), J4_15 G2 (io), J4_16 G15 (io), J4_17 SD1 (io), J4_18 SD0 (io), J4_19 CLK (in), J5_1 5V (power), J5_6 GND (power), J5_7 G12 (io), J5_8 G14 (io)

## ESP32S3
designator U?  (value not drawn)
footprint ESP32S3
pins: 2 3V3 (power), 3 EN (in), 4 IO4 (io), 5 IO5 (io), 6 IO6 (io), 7 IO7 (io), 8 IO15 (io), 9 IO16 (io), 10 IO17 (io), 11 IO18 (io), 12 IO8 (io), 13 IO19 (io), 14 IO20 (io), 15 IO3 (io), 16 IO46 (io), 17 IO9 (io), 18 IO10 (io), 19 IO11 (io), 20 IO12 (io), 21 IO13 (io), 22 IO14 (io), 23 IO21 (io), 24 IO47 (io), 25 IO48 (io), 26 IO45 (io), 27 IO0 (io), 28 IO35 (io), 29 IO36 (io), 30 IO37 (io), 31 IO38 (io), 32 IO39 (io), 33 IO40 (io), 34 IO41 (io), 35 IO42 (io), 36 RXD0 (io), 37 TXD0 (io), 38 IO2 (io), 39 IO1 (io), GND (power)

## ESP8266-12E
designator U?, comment ESP12E
WIFI MODULE
footprint ESP12E
pins: 1 ~{RST} "Reset", 2 ADC/TOUT "ADC Input Or TOUT Output", 3 EN "Chip enable", 4 GPIO16/~{WAKE} "GPIO16 or Deep-Sleep Wakeup", 5 GPIO14/HSPICLK "GPIO14 or SPI CLK", 6 GPIO12/HSPIQ "GPIO12 or SPIQ", 7 GPIO13/HSPID/CTS0/RXD2 "GPIO13 or SPID", 8 VDD "Power supply", 9 SPI_MOSI/SD_CMD "GPIO14 or SPI CLK", 10 SPI_MISO/SD_D0 "GPIO12 or SPIQ", 11 GPIO9/SD_D2 "GPIO13 or SPID", 12 GPIO10/SPI_CS/SD_D3 "GPIO15 or SPICS", 13 SPI_INT/SD_D1 "GPIO2 or TX", 14 SPI_CLK/SD_CLK "GPIO0 or SPICS2", 15 GND "Power ground", 16 GPIO15/HSPICS/RTS0/TXD2 "GPIO15 or SPICS", 17 GPIO2/TXD1 "GPIO2 or TX", 18 GPIO0/SPICS2 "GPIO0 or SPICS2", 19 GPIO4 "GPIO5", 20 GPIO5 "GPIO4", 21 GPIO3/RXD0 "GPIO3 or UART RXD", 22 GPIO1/SPICS1/TXD0 "GPIO1 or UART TXD"

## EV1527
designator U?
OTP Encoder
footprint SOP-8
pins: 1 OSC1, 2 VCC, 3 VSS, 4 TXD, 5 K0, 6 K1, 7 K2, 8 K3

## F32M16
designator U?
footprint TSSOP20
pins: 1, 2, 3, 4, 5, 6, 7 GND, 8, 9 VCC, 10, 11 DALIRX, 12 DALITX, 13, 14, 15, 16 PWM, 17 PRG1, 18 PRG2, 19, 20

## Fast on connector
designator J?
VALUE: Fast on connector
footprint fast on connector
footprint fast connector
pins: 1

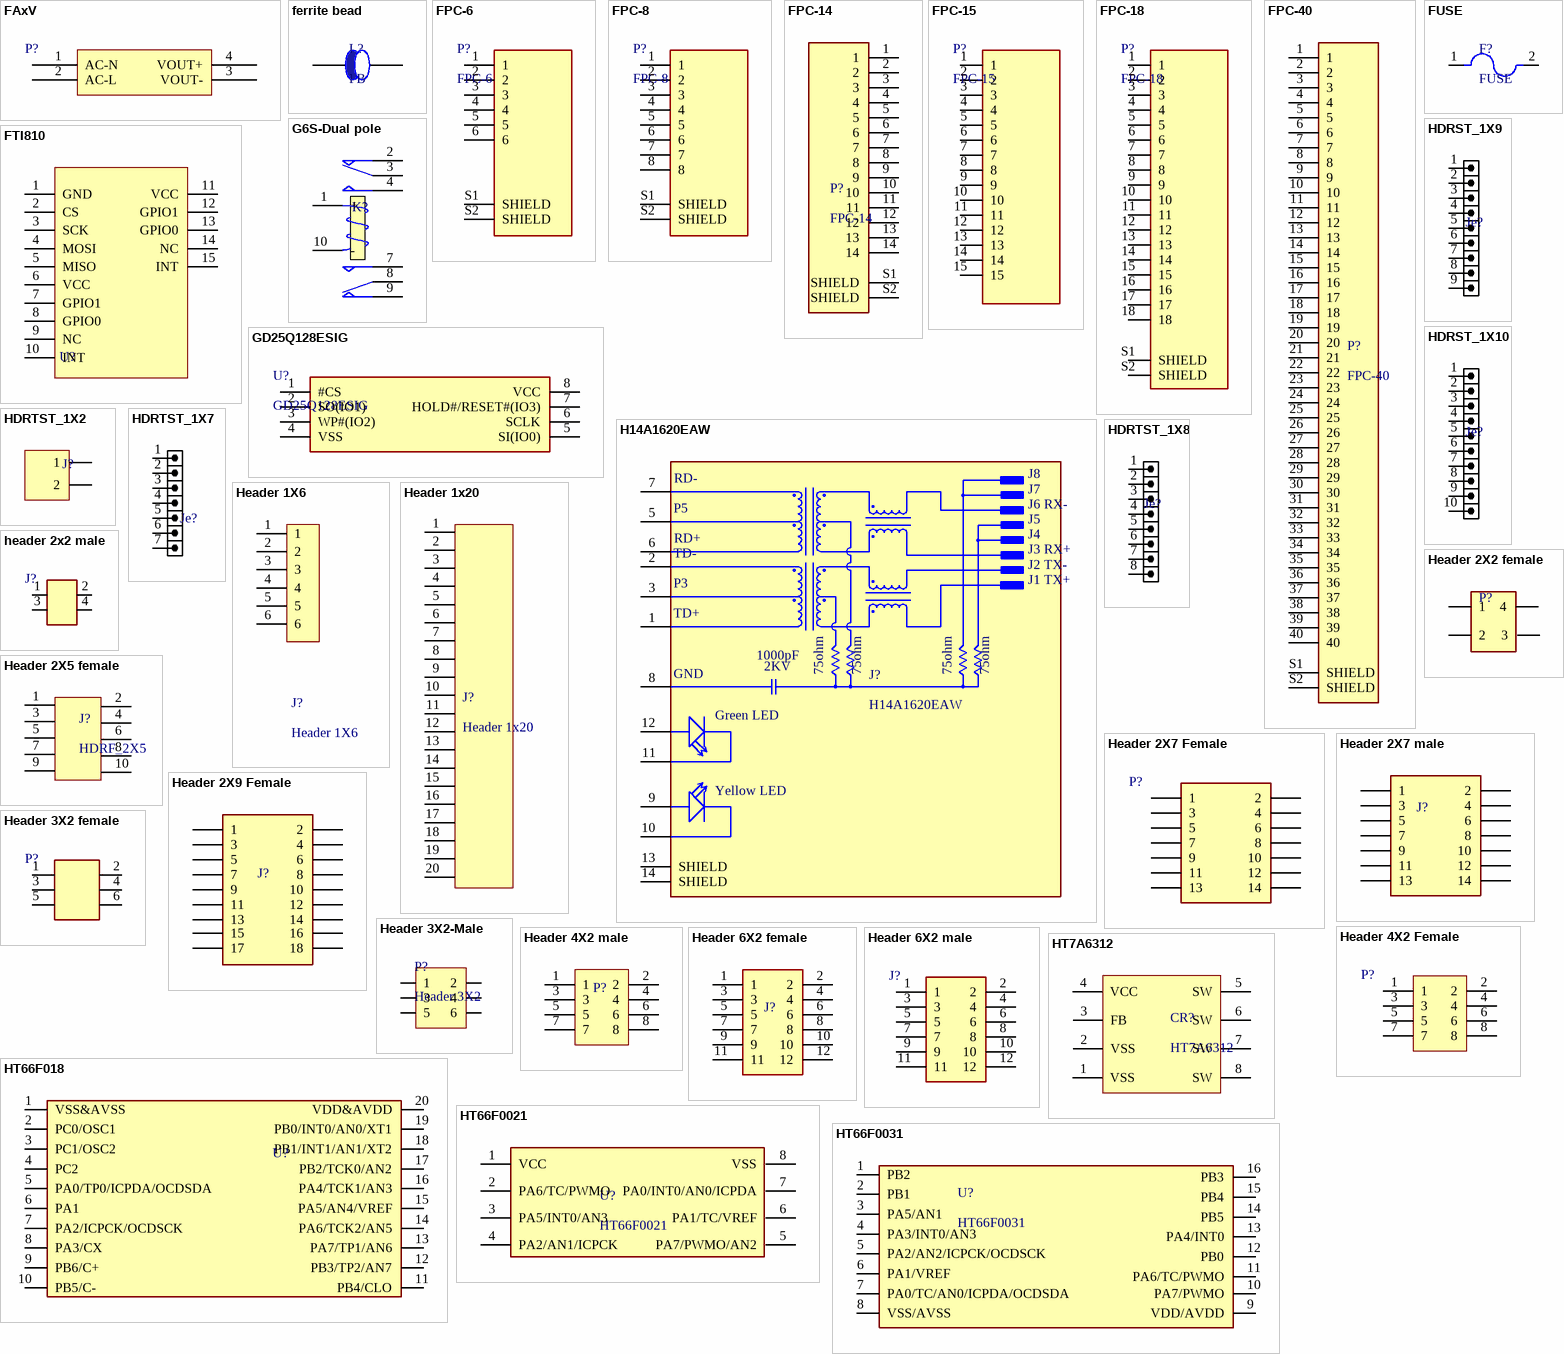
[diagram p4: symbols FAxV to HT66F0031]

## FAxV
designator P?  (value not drawn)
footprint FAxV
footprint TA10WxDx (Footprint not found)
pins: 1 AC-N, 2 AC-L, 3 VOUT-, 4 VOUT+

## ferrite bead
designator L?, comment FB
VALUE: Ferrite bead; SIZE: SMD 0805
footprint FERRITEBEAD_0805
footprint FERRITEBEAD_0603
footprint FERRITEBEAD_1206
pins: 1, 2

## FPC-6
designator P?
FPC 6pin connector
footprint FPC-6(PITCH:0.5MM)
pins: 1, 2, 3, 4, 5, 6, S1 SHIELD, S2 SHIELD

## FPC-8
designator P?
FPC 8pin connector
footprint FPC-8(PITCH:0.5MM)
pins: 1, 2, 3, 4, 5, 6, 7, 8, S1 SHIELD, S2 SHIELD

## FPC-14
designator P?
FPC 14pin connector
footprint FPC-14(PITCH:0.5MM)
pins: 1, 2, 3, 4, 5, 6, 7, 8, 9, 10, 11, 12, 13, 14, S1 SHIELD, S2 SHIELD

## FPC-15
designator P?
FPC 15pin connector
footprint FPC-15(PITCH:1MM)
pins: 1, 2, 3, 4, 5, 6, 7, 8, 9, 10, 11, 12, 13, 14, 15

## FPC-18
designator P?
FPC 18pin connector
footprint FPC-18(PITCH:0.5MM)
pins: 1, 2, 3, 4, 5, 6, 7, 8, 9, 10, 11, 12, 13, 14, 15, 16, 17, 18, S1 SHIELD, S2 SHIELD

## FPC-40
designator P?
FPC 40pin connector
footprint FPC-40(PITCH:0.5MM)
pins: 1, 2, 3, 4, 5, 6, 7, 8, 9, 10, 11, 12, 13, 14, 15, 16, 17, 18, 19, 20, 21, 22, 23, 24, 25, 26, 27, 28, 29, 30, 31, 32, 33, 34, 35, 36, 37, 38, 39, 40, S1 SHIELD, S2 SHIELD

## FTI810
designator U?, comment FTI810 module  (value not drawn)
footprint FTI810 Driver
pins: 1 GND, 2 CS, 3 SCK, 4 MOSI, 5 MISO, 6 VCC, 7 GPIO1, 8 GPIO0, 9 NC, 10 INT, 11 VCC, 12 GPIO1, 13 GPIO0, 14 NC, 15 INT

## FUSE
designator F?
footprint FUSE HOLDER
footprint SMD-2410
footprint fuse holder 3557-2
footprint FUSE-SMD1206
pins: 1, 2

## G6S-Dual pole
designator K?, comment G6S  (value not drawn)
Compact, Industry-Standard 2-pole relay, / designed to switch 2A Signal Loads.; VALUE: G6S; SIZE: 7.3*9.2*14.8
footprint G6S Dual pole
pins: 1 +, 2 NC, 3 COM, 4 NO, 7 NO, 8 COM, 9 NC, 10 -

## GD25Q128ESIG
designator U?
Dual and Quad Serial Flash
footprint SOP-8(208MIL)
pins: 1 #CS, 2 SO(IO1), 3 WP#(IO2), 4 VSS, 5 SI(IO0), 6 SCLK, 7 HOLD#/RESET#(IO3), 8 VCC

## H14A1620EAW
designator J?
RJ45 Jack Shielded 1 Through Hole With LED -40℃~+85℃ Through Hole Modular/Ethernet Connector Jacks RoHS
footprint H14A1620EAW-2
pins: 1 TD+, 2 TD-, 3 P3, 5 P5, 6 RD+, 7 RD-, 8 GND (power), 9 YA, 10 YC, 11 GC, 12 GA, 13 SHIELD, 14 SHIELD
text: J8; J7; J6 RX-; J5; J4; J3 RX+; J2 TX-; J1 TX+; 1000pF; 2KV; 75ohm; Green LED; Yellow LED

## HDRST_1X9
designator Je?  (value not drawn)
HEADER, 1mm pitch, test, SMD; VALUE: HDRST_1X9; SIZE: 28AWG WIRE 1MM PITCH
footprint header 9pin
pins: 1, 2, 3, 4, 5, 6, 7, 8, 9

## HDRST_1X10
designator Je?  (value not drawn)
HEADER, 1mm pitch, test, SMD; VALUE: HDRST_1X10; SIZE: 28AWG WIRE 1MM PITCH
footprint header 10pin
pins: 1, 2, 3, 4, 5, 6, 7, 8, 9, 10

## HDRTST_1X2
designator J?, comment header 2pin  (value not drawn)
header 2pin (pitch 1.5mm); VALUE: HDRTST_1X2; SIZE: 28AWG WIRE 1.5MM PITCH
footprint header 2pin
pins: 1, 2

## HDRTST_1X7
designator Je?, comment HDR_1X7  (value not drawn)
HEADER, 1mm pitch, test, SMD; Parameter 1: 28AWG WIRE 1MM PITCH; VALUE: HDR_1X7
footprint Header 7pin
footprint Connector 7pin
pins: 1, 2, 3, 4, 5, 6, 7

## HDRTST_1X8
designator Je?  (value not drawn)
footprint Connector 8pin
pins: 1, 2, 3, 4, 5, 6, 7, 8

## Header 1X6
designator J?
footprint Header 1X6(Dip&SMD)
footprint header 1x6  (2mm)
footprint header 1x6 1.27mm
footprint header 1x6 (2.54mm)
pins: 1, 2, 3, 4, 5, 6

## Header 1x20
designator J?
footprint Header1x20
pins: 1, 2, 3, 4, 5, 6, 7, 8, 9, 10, 11, 12, 13, 14, 15, 16, 17, 18, 19, 20

## Header 2X2 female
designator P?  (value not drawn)
footprint header 2X2 female
footprint header 2x2 female 2mm smd
pins: 1, 2, 3, 4

## header 2x2 male
designator J?  (value not drawn)
footprint header 2x2 male 2mm
footprint header 2x2 male (pitch:2.54mm)
pins: 1, 2, 3, 4

## Header 2X5 female
designator J?, comment HDRF_2X5
Header, 5-Pin, Dual row,stand,female; VALUE: HDRF_2X5
footprint Header 2X5 Female
pins: 1, 2, 3, 4, 5, 6, 7, 8, 9, 10

## Header 2X7 Female
designator P?  (value not drawn)
footprint Header 7X2 Female SMD
footprint HEADER 7X2 FEMALE SMD (2MM)
footprint HEADER 2X7 FEMALE SMD (1.27MM)
footprint HEADER 2X7 FEMALE (1.27MM)
pins: 1, 2, 3, 4, 5, 6, 7, 8, 9, 10, 11, 12, 13, 14

## Header 2X7 male
designator J?  (value not drawn)
VALUE: HDR_2X7
footprint Header male 7X2
footprint HEADER 7X2 MALE SMD 2MM
footprint HEADER 2X7 SMD(1.27MM)
pins: 1, 2, 3, 4, 5, 6, 7, 8, 9, 10, 11, 12, 13, 14

## Header 2X9 Female
designator J?  (value not drawn)
footprint HEADER 2X9 FEMALE (1.27MM)
footprint HEADER 2X9 FEMALE SMD (1.27MM)
pins: 1, 2, 3, 4, 5, 6, 7, 8, 9, 10, 11, 12, 13, 14, 15, 16, 17, 18

## Header 3X2 female
designator P?  (value not drawn)
footprint Header 3X2 SMD (Footprint not found)
footprint header 3x2 female 2mm smd
footprint Header 3x2 female (pitch=2.54)
pins: 1, 2, 3, 4, 5, 6

## Header 3X2-Male
designator P?, comment Header 3X2
Header, 3-Pin, Dual row
footprint Header 3X2 Male
footprint Header 3X2 Male 2mm
pins: 1, 2, 3, 4, 5, 6

## Header 4X2 Female
designator P?, comment Header 4X2  (value not drawn)
Header, 4-Pin, Dual row
footprint header 4X2 female (2.54mm)
pins: 1, 2, 3, 4, 5, 6, 7, 8

## Header 4X2 male
designator P?, comment Header 4X2  (value not drawn)
Header, 4-Pin, Dual row
footprint header 4X2 male (2.54mm)
pins: 1, 2, 3, 4, 5, 6, 7, 8

## Header 6X2 female
designator J?, comment HDRF_2X6  (value not drawn)
CONN, HEADER, Female, pitch: 2mm, 12POS; VALUE: HDRF_2X6; SIZE: 2mm Pitch
footprint Header 6X2 2.5
footprint header 2x6 female (pitch:2mm)
footprint header 2x6 female SMD (pitch:2mm)
pins: 1, 2, 3, 4, 5, 6, 7, 8, 9, 10, 11, 12

## Header 6X2 male
designator J?, comment HDRM_2X6  (value not drawn)
CONN, HEADER, Female, pitch: 2mm, 12POS; VALUE: HDRM_2X6; SIZE: 2mm Pitch
footprint header 2x6 male (pitch:2mm)
footprint header 2x6 male SMD (pitch:2mm)
pins: 1, 2, 3, 4, 5, 6, 7, 8, 9, 10, 11, 12

## HT7A6312
designator CR?
VALUE: HT7A6312; SIZE: SOP-8
footprint SOP-8
pins: 1 VSS (power), 2 VSS (power), 3 FB, 4 VCC, 5 SW, 6 SW, 7 SW, 8 SW (power)

## HT66F018
designator U?  (value not drawn)
A/D Flash MCU with EEPROM; VALUE: HT66F018; SIZE: SSOP-20
footprint NSOP-20
footprint SSOP-20 (Footprint not found)
pins: 1 VSS&AVSS, 2 PC0/OSC1, 3 PC1/OSC2, 4 PC2, 5 PA0/TP0/ICPDA/OCDSDA, 6 PA1, 7 PA2/ICPCK/OCDSCK, 8 PA3/CX, 9 PB6/C+, 10 PB5/C-, 11 PB4/CLO, 12 PB3/TP2/AN7, 13 PA7/TP1/AN6, 14 PA6/TCK2/AN5, 15 PA5/AN4/VREF, 16 PA4/TCK1/AN3, 17 PB2/TCK0/AN2, 18 PB1/INT1/AN1/XT2, 19 PB0/INT0/AN0/XT1, 20 VDD&AVDD

## HT66F0021
designator U?
Low-Cost A/D Flash MCU; SIZE: SOP-8; VALUE: HT66F0021
footprint SOP-8
pins: 1 VCC (power), 2 PA6/TC/PWMO, 3 PA5/INT0/AN3, 4 PA2/AN1/ICPCK, 5 PA7/PWMO/AN2, 6 PA1/TC/VREF, 7 PA0/INT0/AN0/ICPDA, 8 VSS

## HT66F0031
designator U?
1K/2K Low-Cost A/D Flash MCU; VALUE: HT66F0031; SIZE: 16-NSOP
footprint NSOP-16
pins: 1 PB2, 2 PB1, 3 PA5/AN1, 4 PA3/INT0/AN3, 5 PA2/AN2/ICPCK/OCDSCK, 6 PA1/VREF, 7 PA0/TC/AN0/ICPDA/OCDSDA, 8 VSS/AVSS, 9 VDD/AVDD, 10 PA7/PWMO, 11 PA6/TC/PWMO, 12 PB0, 13 PA4/INT0, 14 PB5, 15 PB4, 16 PB3

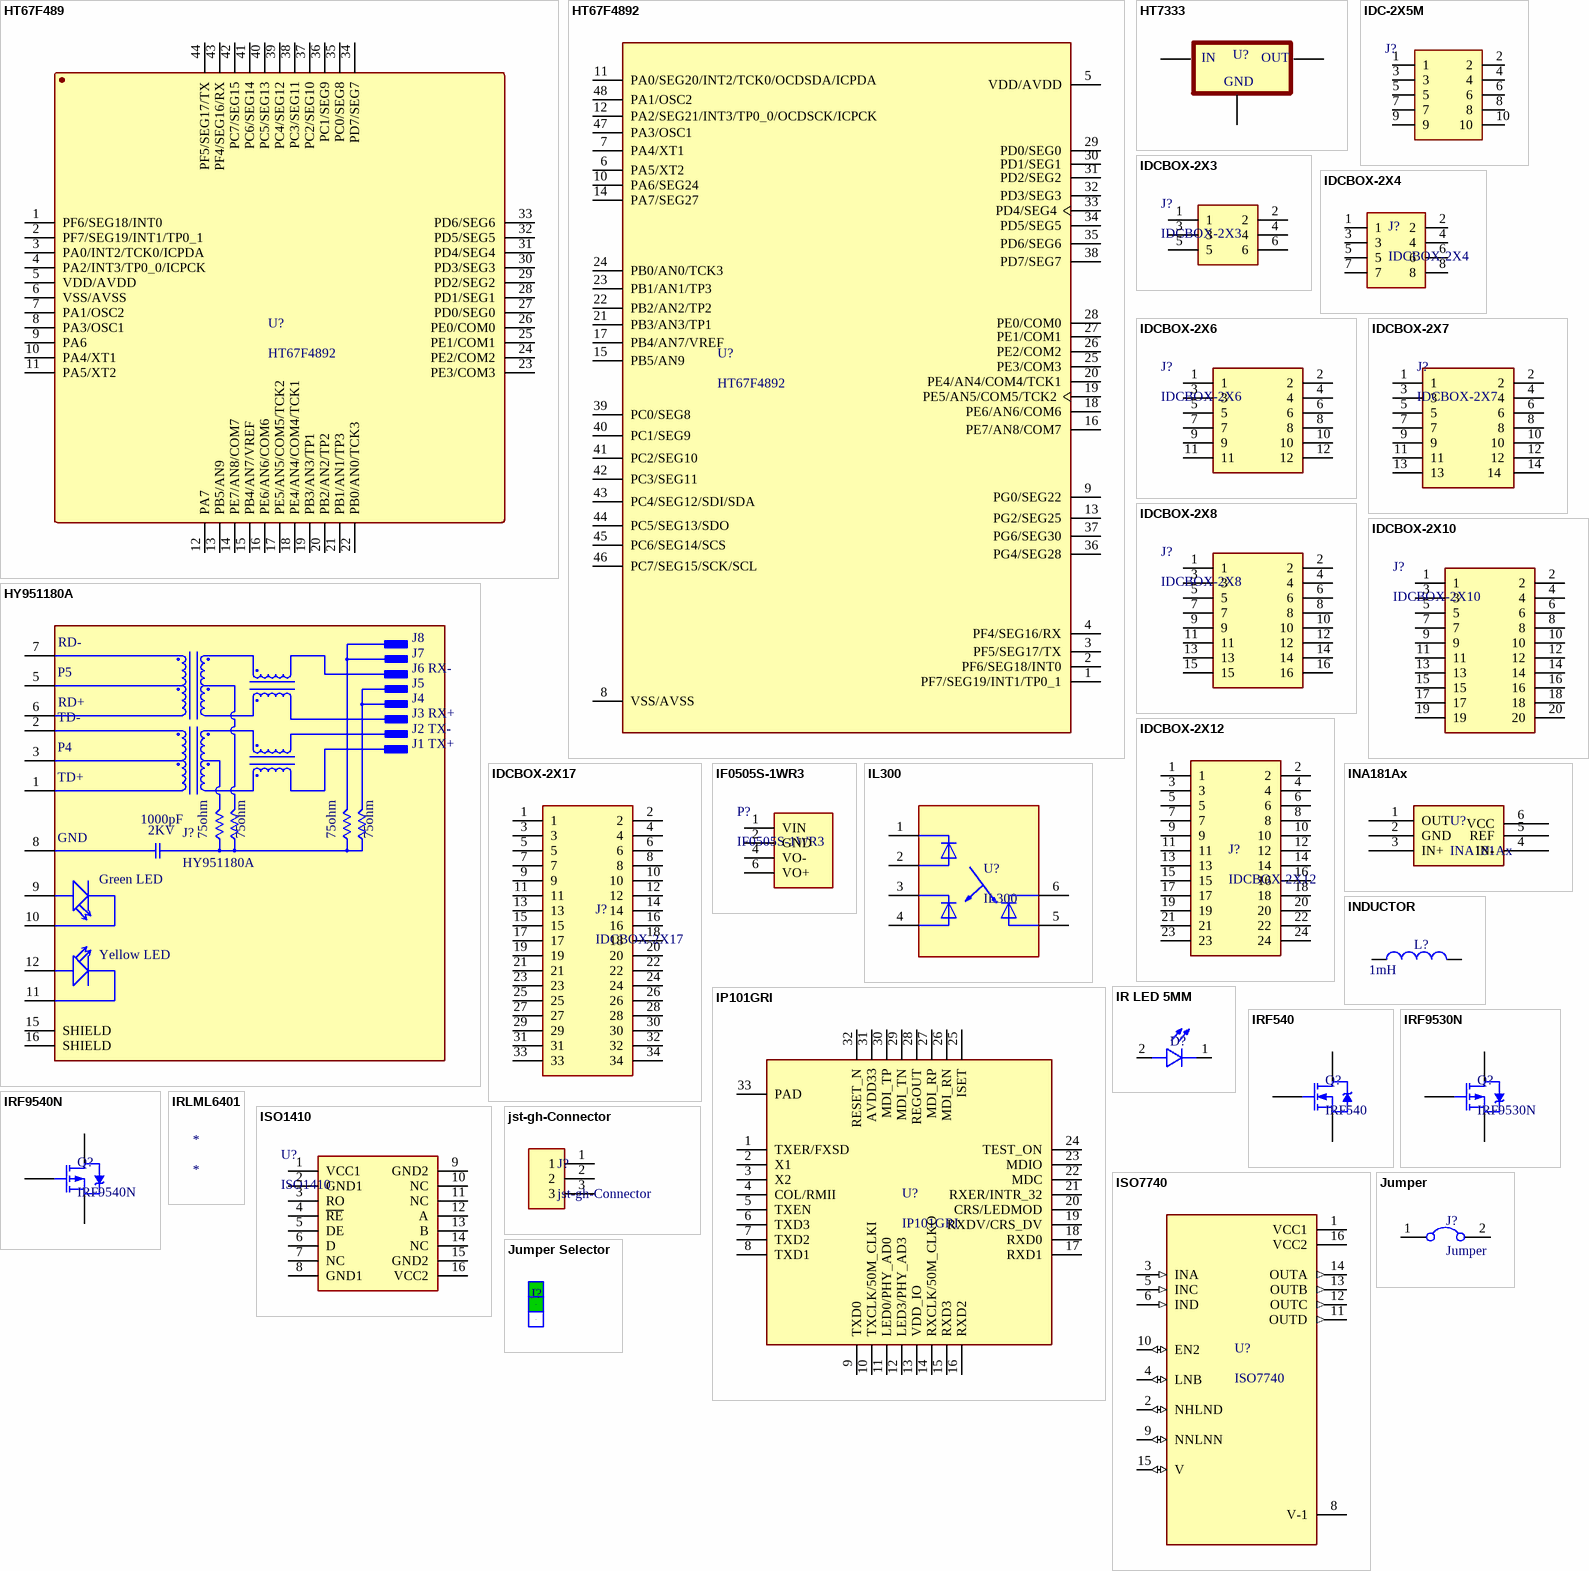
[diagram p5: symbols HT67F489 to Jumper Selector]

## HT67F489
designator U?, comment HT67F4892
TinyPowerTM A/D Flash MCU with LCD & EEPROM; VALUE: HT67F4892; SIZE: 48 LQFP-A
footprint LQFP-44 (Footprint not found)
pins: 1 PF6/SEG18/INT0, 2 PF7/SEG19/INT1/TP0_1, 3 PA0/INT2/TCK0/ICPDA, 4 PA2/INT3/TP0_0/ICPCK, 5 VDD/AVDD, 6 VSS/AVSS, 7 PA1/OSC2, 8 PA3/OSC1, 9 PA6, 10 PA4/XT1, 11 PA5/XT2, 12 PA7, 13 PB5/AN9, 14 PE7/AN8/COM7, 15 PB4/AN7/VREF, 16 PE6/AN6/COM6, 17 PE5/AN5/COM5/TCK2, 18 PE4/AN4/COM4/TCK1, 19 PB3/AN3/TP1, 20 PB2/AN2/TP2, 21 PB1/AN1/TP3, 22 PB0/AN0/TCK3, 23 PE3/COM3, 24 PE2/COM2, 25 PE1/COM1, 26 PE0/COM0, 27 PD0/SEG0, 28 PD1/SEG1, 29 PD2/SEG2, 30 PD3/SEG3, 31 PD4/SEG4, 32 PD5/SEG5, 33 PD6/SEG6, 34 PD7/SEG7, 35 PC0/SEG8, 36 PC1/SEG9, 37 PC2/SEG10, 38 PC3/SEG11, 39 PC4/SEG12, 40 PC5/SEG13, 41 PC6/SEG14, 42 PC7/SEG15, 43 PF4/SEG16/RX, 44 PF5/SEG17/TX

## HT67F4892
designator U?
HT67F4892 is a Flash Memory A/D type 8-bit high performance; VALUE: HT67F4892; SIZE: 48 LQFP-A
footprint LQFP-48 (Footprint not found)
pins: 1 PF7/SEG19/INT1/TP0_1, 2 PF6/SEG18/INT0, 3 PF5/SEG17/TX, 4 PF4/SEG16/RX, 5 VDD/AVDD, 6 PA5/XT2, 7 PA4/XT1, 8 VSS/AVSS, 9 PG0/SEG22, 10 PA6/SEG24, 11 PA0/SEG20/INT2/TCK0/OCDSDA/ICPDA, 12 PA2/SEG21/INT3/TP0_0/OCDSCK/ICPCK, 13 PG2/SEG25, 14 PA7/SEG27, 15 PB5/AN9, 16 PE7/AN8/COM7, 17 PB4/AN7/VREF, 18 PE6/AN6/COM6, 19 PE5/AN5/COM5/TCK2, 20 PE4/AN4/COM4/TCK1, 21 PB3/AN3/TP1, 22 PB2/AN2/TP2, 23 PB1/AN1/TP3, 24 PB0/AN0/TCK3, 25 PE3/COM3, 26 PE2/COM2, 27 PE1/COM1, 28 PE0/COM0, 29 PD0/SEG0, 30 PD1/SEG1, 31 PD2/SEG2, 32 PD3/SEG3, 33 PD4/SEG4, 34 PD5/SEG5, 35 PD6/SEG6, 36 PG4/SEG28, 37 PG6/SEG30, 38 PD7/SEG7, 39 PC0/SEG8, 40 PC1/SEG9, 41 PC2/SEG10, 42 PC3/SEG11, 43 PC4/SEG12/SDI/SDA, 44 PC5/SEG13/SDO, 45 PC6/SEG14/SCS, 46 PC7/SEG15/SCK/SCL, 47 PA3/OSC1, 48 PA1/OSC2

## HT7333
designator U?  (value not drawn)
Linear Regulator 3.3 fixed; SIZE: SOT89-3; VALUE: HT7333
footprint SOT89-3
pins: 1 GND, 2 IN, 3 OUT

## HY951180A
designator J?
1x1 Port Tab upright RJ45 Connector with Integrated Magnetics and LED
footprint HY951180A
pins: 1 TD+, 2 TD-, 3 P4, 5 P5, 6 RD+, 7 RD-, 8 GND (power), 9 GA, 10 GC, 11 YC, 12 YA, 15 SHIELD, 16 SHIELD
text: J8; J7; J6 RX-; J5; J4; J3 RX+; J2 TX-; J1 TX+; 1000pF; 2KV; 75ohm; Green LED; Yellow LED

## IDC-2X5M
designator J?  (value not drawn)
footprint IDC-2X5M
footprint IDCBOX-2X5(1.27mm)
pins: 1, 2, 3, 4, 5, 6, 7, 8, 9, 10

## IDCBOX-2X3
designator J?
footprint IDCBOX-2X3(1.27mm)
footprint IDCBOX-2X3(2.54mm)
pins: 1, 2, 3, 4, 5, 6

## IDCBOX-2X4
designator J?
footprint IDCBOX-2X4(2.54MM)
footprint IDCBOX-2X4(1.27mm)
pins: 1, 2, 3, 4, 5, 6, 7, 8

## IDCBOX-2X6
designator J?
footprint IDCBOX-2X6(1.27mm)
pins: 1, 2, 3, 4, 5, 6, 7, 8, 9, 10, 11, 12

## IDCBOX-2X7
designator J?
footprint IDCBOX-2X7(1.27mm)
pins: 1, 2, 3, 4, 5, 6, 7, 8, 9, 10, 11, 12, 13, 14 14 

## IDCBOX-2X8
designator J?
footprint IDCBOX-2X8(1.27mm)
pins: 1, 2, 3, 4, 5, 6, 7, 8, 9, 10, 11, 12, 13, 14, 15, 16

## IDCBOX-2X10
designator J?
footprint IDCBOX-2X10(1.27mm)
footprint IDCBOX-2X10(2.54MM)
pins: 1, 2, 3, 4, 5, 6, 7, 8, 9, 10, 11, 12, 13, 14, 15, 16, 17, 18, 19, 20

## IDCBOX-2X12
designator J?
footprint IDCBOX-2X12(1.27MM)
pins: 1, 2, 3, 4, 5, 6, 7, 8, 9, 10, 11, 12, 13, 14, 15, 16, 17, 18, 19, 20, 21, 22, 23, 24

## IDCBOX-2X17
designator J?
footprint IDCBOX-2X17(1.27MM)
pins: 1, 2, 3, 4, 5, 6, 7, 8, 9, 10, 11, 12, 13, 14, 15, 16, 17, 18, 19, 20, 21, 22, 23, 24, 25, 26, 27, 28, 29, 30, 31, 32, 33, 34

## IF0505S-1WR3
designator P?
footprint IF0505S-1WR3
pins: 1 VIN, 2 GND, 4 VO-, 6 VO+

## IL300
designator U?
Linear Optocoupler, High Gain Stability, Wide Bandwidth
footprint SMD-8
pins: 1, 2, 3, 4, 5, 6

## INA181Ax
designator U?
INAx181 Bidirectional, Low- and High-Side Voltage Output, / Current-Sense Amplifiers
footprint SOT23-6 (Footprint not found)
pins: 1 OUT, 2 GND, 3 IN+, 4 IN-, 5 REF, 6 VCC

## INDUCTOR
designator L?, comment 1mH
TYPE: Radial Leaded; SIZE: 7.8*10*5; VALUE: 1mH
footprint INDUCTORL
footprint RES_SMD_0805
footprint inductor smd-7x7mm
footprint INDUCTOR 12X12X7MM
footprint inductor smd-5x5x4mm
footprint 8080
footprint RES_SMD_0402
footprint RES_SMD_0603
footprint RES_SMD_0201
footprint INDUCTOR SMD-10X10X4mm
footprint SMD0630
footprint RES_SMD_1206
footprint CY43
pins: 1, 2

## IP101GRI
designator U?
Single Port 10/100 MII/RMII/TP/Fiber / Fast Ethernet Transceiver
footprint QFN-32(4x4mm)
pins: 1 TXER/FXSD, 2 X1, 3 X2, 4 COL/RMII, 5 TXEN, 6 TXD3, 7 TXD2, 8 TXD1, 9 TXD0, 10 TXCLK/50M_CLKI, 11 LED0/PHY_AD0, 12 LED3/PHY_AD3, 13 VDD_IO, 14 RXCLK/50M_CLKO, 15 RXD3, 16 RXD2, 17 RXD1, 18 RXD0, 19 RXDV/CRS_DV, 20 CRS/LEDMOD, 21 RXER/INTR_32, 22 MDC, 23 MDIO, 24 TEST_ON, 25 ISET, 26 MDI_RN, 27 MDI_RP, 28 REGOUT, 29 MDI_TN, 30 MDI_TP, 31 AVDD33, 32 RESET_N, 33 PAD

## IR LED 5MM
designator D?  (value not drawn)
footprint IR LED 5MM
pins: 1 C, 2 A

## IRF540
designator Q?
footprint TO-220
pins: 1 G, 2 D, 3 S

## IRF9530N
designator Q?
footprint TO-220
pins: 1 G, 2 D, 3 S

## IRF9540N
designator Q?
Silicon P-Channel Power MOSFET
footprint TO-252
pins: 1 G, 2 D, 3 S

## IRLML6401
designator *

## ISO1410
designator U?
ISO14xx 5kVRMS Isolated RS-485/RS-422 Transceiver / With Robust EMC
footprint SOIC16W
pins: 1 VCC1, 2 GND1, 3 RO, 4 ~{RE}, 5 DE, 6 D, 7 NC, 8 GND1, 9 GND2, 10 NC, 11 NC, 12 A, 13 B, 14 NC, 15 GND2, 16 VCC2

## ISO7740
designator U?
High-Speed, Robust-EMC Reinforced and Basic Quad-Channel Digital Isolators
footprint SOIC16W
pins: 1 VCC1 (power), 2 NHLND (io), 3 INA (in), 4 LNB (io), 5 INC (in), 6 IND (in), 8 V-1 (power), 9 NNLNN (io), 10 EN2 (io), 11 OUTD (out), 12 OUTC (out), 13 OUTB (out), 14 OUTA (out), 15 V (io), 16 VCC2 (power)

## jst-gh-Connector
designator J?
footprint jst-gh-1.25mm
pins: 1, 2, 3

## Jumper
designator J?
footprint Jumper SMD
pins: 1, 2

## Jumper Selector
designator J?, comment JUMPER  (value not drawn)
footprint JUMPER Selector SMD
pins: 1, 2, 3

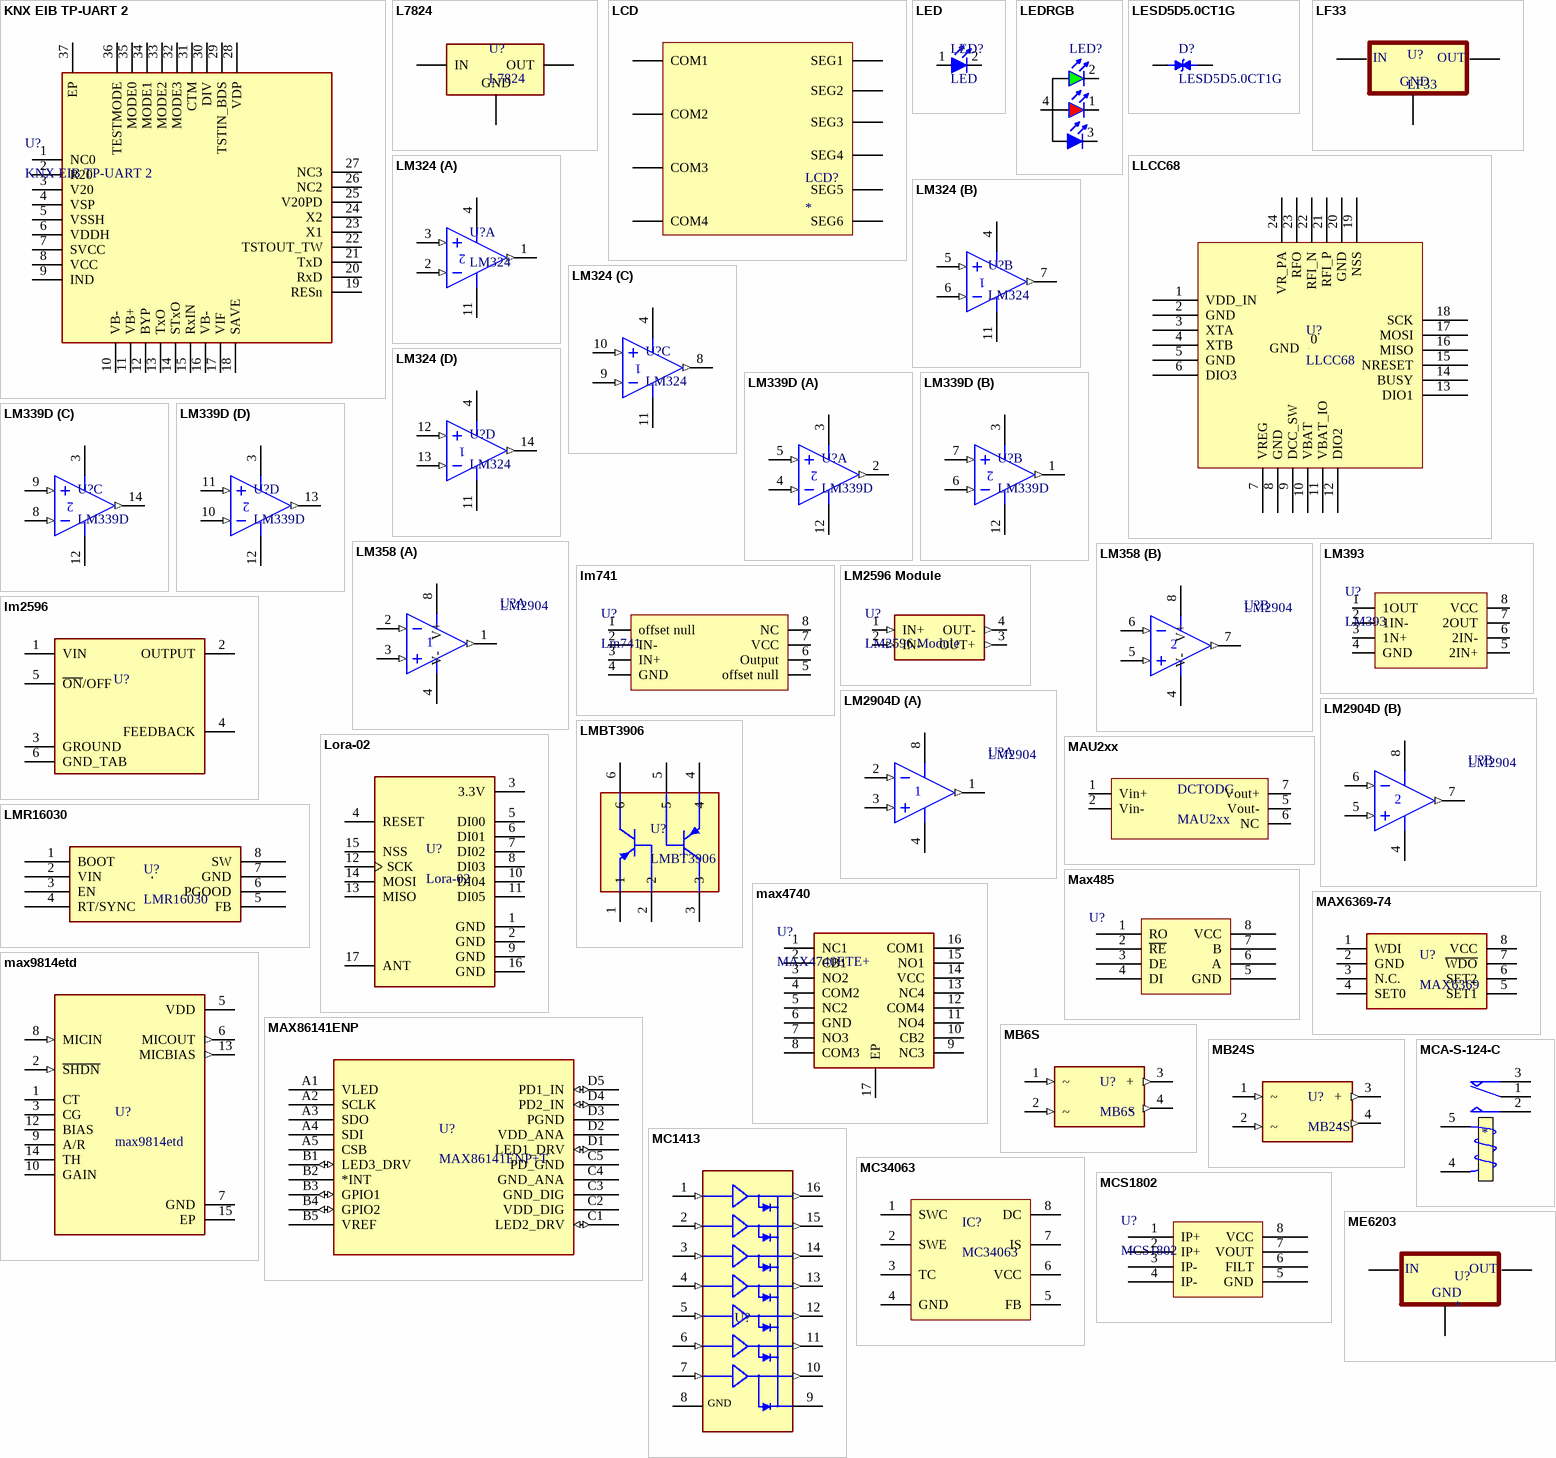
[diagram p6: symbols KNX EIB TP-UART 2 to ME6203]

## KNX EIB TP-UART 2
designator U?
The TP - UART - IC (Twisted Pair - Universal Asynchronous Receive Transmit - IC) is a / transceiver which supports the connection of microcontrollers of sensors, actuators, or other / applications to the EIB (European - Installation - Bus)
footprint QFN-36(6X6mm)
pins: 1 NC0, 2 R20, 3 V20, 4 VSP, 5 VSSH, 6 VDDH, 7 SVCC, 8 VCC, 9 IND, 10 VB-, 11 VB+, 12 BYP, 13 TxO, 14 STxO, 15 RxIN, 16 VB-, 17 VIF, 18 SAVE, 19 RESn, 20 RxD, 21 TxD, 22 TSTOUT_TW, 23 X1, 24 X2, 25 V20PD, 26 NC2, 27 NC3, 28 VDP, 29 TSTIN_BDS, 30 DIV, 31 CTM, 32 MODE3, 33 MODE2, 34 MODE1, 35 MODE0, 36 TESTMODE, 37 EP

## L7824
designator U?
footprint TO-220
pins: 1 IN, 2 GND, 3 OUT

## LCD
designator LCD?
CUSTOM LCD 7SEGMENT MULTIPLEX; VALUE: Custom LCD; SIZE: Dip
footprint LCD
pins: 1 COM1, 2 COM2, 3 COM3, 4 COM4, 5 SEG1, 6 SEG2, 7 SEG3, 8 SEG4, 9 SEG5, 10 SEG6

## LED
designator LED?
VALUE: LED SMD RED; SIZE: SMD 1206
footprint LED Green
footprint LED RED
footprint LEDRED_SMD1206
footprint LEDGreen_SMD1206
footprint LEDBLUE_SMD1206
footprint LEDYELLOW_SMD1206
footprint LEDWhite_SMD1206
footprint LEDGREEN_SMD0603
footprint LEDBLUE_SMD0603
footprint LEDWHITE_SMD0603
footprint LEDRED_SMD0603
footprint LED_SMD0805
pins: 1 A, 2 K

## LEDRGB
designator LED?  (value not drawn)
footprint LEDRGB_SMD0603
pins: 1 R, 2 G, 3 B, 4

## LESD5D5.0CT1G
designator D?
Transient Voltage Suppressors for ESD Protection
footprint SOD-523
pins: 1, 2

## LF33
designator U?
footprint TO-252
pins: 1 OUT, 2 GND, 3 IN

## LLCC68
designator U?
footprint VQFN-24(4x4)
pins: 0 GND, 1 VDD_IN, 2 GND, 3 XTA, 4 XTB, 5 GND, 6 DIO3, 7 VREG, 8 GND, 9 DCC_SW, 10 VBAT, 11 VBAT_IO, 12 DIO2, 13 DIO1, 14 BUSY, 15 NRESET, 16 MISO, 17 MOSI, 18 SCK, 19 NSS, 20 GND, 21 RFI_P, 22 RFI_N, 23 RFO, 24 VR_PA

## LM324
designator U?
Quadruple Operational Amplifiers
footprint SOIC14
footprint PDIP-14
part A pins: 1 OUT (out), 2 IN- (in), 3 IN+ (in), 4 V+, 11 V-
part B pins: 4 V+, 5 IN+ (in), 6 IN- (in), 7 OUT (out), 11 V-
part C pins: 4 V+, 8 OUT (out), 9 IN- (in), 10 IN+ (in), 11 V-
part D pins: 4 V+, 11 V-, 12 IN+ (in), 13 IN- (in), 14 OUT (out)

## LM339D
designator U?
Low-power quad voltage comparators
footprint SOIC14
footprint TSSOP14
part A pins: 2 OUT (out), 3 V+, 4 IN- (in), 5 IN+ (in), 12 V-
part B pins: 1 OUT (out), 3 V+, 6 IN- (in), 7 IN+ (in), 12 V-
part C pins: 3 V+, 8 IN- (in), 9 IN+ (in), 12 V-, 14 OUT (out)
part D pins: 3 V+, 10 IN- (in), 11 IN+ (in), 12 V-, 13 OUT (out)

## LM358
designator U?, comment LM2904
Single Supply Dual / Operational Amplifiers; Published: 17-Jul-2002; LatestRevisionDate: 13-Apr-2006; LatestRevisionNote: IPC-7351 Footprint Added.; DatasheetVersion: 1988; PackageReference: 751-02; Publisher: Altium Limited; PackageDescription: 8-Pin Small Outline Integrated Circuit 1.27 mm Pitch; Code_JEDEC: MS-012-AA; Code_IPC: SOIC127P600-8; ComponentLink1Description: Manufacturer Link; ComponentLink1URL: http://www.onsemi.com/site/products/parametrics/0,4446,251,00.html; ComponentLink2Description: Datasheet; ComponentLink2URL: http://www.onsemi.com/pub/Collateral/LM358-D.PDF; VALUE: LM2904; SIZE: 8-SOIC
3D model 751-02 (8-Pin Small Outline Integrated Circuit 1.27 mm Pitch)
footprint SOP-8
pins on every part: 4 V-, 8 V+
part A pins: 1 OUT (out), 2 IN- (in), 3 IN+ (in)
part B pins: 5 IN+ (in), 6 IN- (in), 7 OUT (out)

## LM393
designator U?
DUAL DIFFERENTIAL COMPARATOR
footprint SOP-8
footprint SOT23-8
pins: 1 1OUT, 2 1IN-, 3 1N+, 4 GND, 5 2IN+, 6 2IN-, 7 2OUT, 8 VCC

## lm741
designator U?, comment Lm741
footprint SOP-8
pins: 1 offset null, 2 IN-, 3 IN+, 4 GND, 5 offset null, 6 Output, 7 VCC, 8 NC

## lm2596
designator U?  (value not drawn)
footprint D2PAK
pins: 1 VIN, 2 OUTPUT, 3 GROUND, 4 FEEDBACK, 5 ~{ON}/OFF, 6 GND_TAB

## LM2596 Module
designator U?
footprint LM2596 MODULE
pins: 1 IN+ (in), 2 IN- (in), 3 OUT+ (out), 4 OUT- (out)

## LM2904D
designator U?, comment LM2904
Dual Low-Power Operational Amplifier; Published: 17-Jul-2002; LatestRevisionDate: 13-Apr-2006; LatestRevisionNote: IPC-7351 Footprint Added.; DatasheetVersion: 1988; PackageReference: 751-02; Publisher: Altium Limited; PackageDescription: 8-Pin Small Outline Integrated Circuit 1.27 mm Pitch; Code_JEDEC: MS-012-AA; Code_IPC: SOIC127P600-8; ComponentLink1Description: Manufacturer Link; ComponentLink1URL: http://www.onsemi.com/site/products/parametrics/0,4446,251,00.html; ComponentLink2Description: Datasheet; ComponentLink2URL: http://www.onsemi.com/pub/Collateral/LM358-D.PDF; VALUE: LM2904; SIZE: 8-SOIC
3D model 751-02 (8-Pin Small Outline Integrated Circuit 1.27 mm Pitch)
footprint SOP-8
pins on every part: 4 V-, 8 V+
part A pins: 1 OUT (out), 2 IN- (in), 3 IN+ (in)
part B pins: 5 IN+ (in), 6 IN- (in), 7 OUT (out)

## LMBT3906
designator U?
footprint SOT-363
pins: 1, 2, 3, 4, 5, 6

## LMR16030
designator U?
LMR16030 SIMPLE SWITCHER® 60-V, 3-A Step-Down Converter With 40-μA IQ
footprint HSOIC-8
pins: 1 BOOT, 2 VIN, 3 EN, 4 RT/SYNC, 5 FB, 6 PGOOD, 7 GND, 8 SW, 9 GND

## Lora-02
designator U?
footprint Lora-02
pins: 1 GND, 2 GND, 3 3.3V, 4 RESET, 5 DI00, 6 DI01, 7 DI02, 8 DI03, 9 GND, 10 DI04, 11 DI05, 12 SCK, 13 MISO, 14 MOSI, 15 NSS, 16 GND, 17 ANT

## MAU2xx
designator DCTODC
1W, High Isolation SIP, Single & Dual Output DC/DC Converters
footprint MAU2xx (Footprint not found)
pins: 1 Vin+, 2 Vin-, 5 Vout-, 6 NC, 7 Vout+

## Max485
designator U?  (value not drawn)
footprint SO-8
pins: 1 RO, 2 ~{RE}, 3 DE, 4 DI, 5 GND, 6 A, 7 B, 8 VCC

## max4740
designator U?, comment MAX4740ETE+
1.6V~5.5V 610mΩ 2:1 TQFN-16-EP(3x3) Analog Switches - Special Purpose RoHS
footprint TQFN-16(3X3mm)
pins: 1 NC1, 2 CB1, 3 NO2, 4 COM2, 5 NC2, 6 GND, 7 NO3, 8 COM3, 9 NC3, 10 CB2, 11 NO4, 12 COM4, 13 NC4, 14 VCC, 15 NO1, 16 COM1, 17 EP

## MAX6369-74
designator U?, comment MAX6369
Pin-Selectable Watchdog Timers
footprint SOT23-8
pins: 1 WDI, 2 GND, 3 N.C., 4 SET0, 5 SET1, 6 SET2, 7 ~{WDO}, 8 VCC

## max9814etd
designator U?
footprint TDFN-14 (Footprint not found)
pins: 1 CT, 2 ~{SHDN} (in), 3 CG, 5 VDD (power), 6 MICOUT (out), 7 GND (power), 8 MICIN (in), 9 A/R, 10 GAIN, 12 BIAS, 13 MICBIAS (out), 14 TH, 15 EP (power)

## MAX86141ENP
designator U?, comment MAX86141ENP+T
Optical Pulse Oximeter and Heart-Rate Sensor for Wearable Health
footprint WLP-20
pins: A1 VLED, A2 SCLK, A3 SDO, A4 SDI, A5 CSB, B1 LED3_DRV (io), B2 *INT, B3 GPIO1 (io), B4 GPIO2 (io), B5 VREF (power), C1 LED2_DRV (io), C2 VDD_DIG (power), C3 GND_DIG (power), C4 GND_ANA (power), C5 PD_GND (power), D1 LED1_DRV (io), D2 VDD_ANA (power), D3 PGND (power), D4 PD2_IN (io), D5 PD1_IN (io)

## MB6S
designator U?
Bridge Rectifier Single Phase Standard 600V Surface Mount 4-SOIC; SIZE: 4-SOIC; VALUE: MB6S
footprint MBS
pins: 1 ~ (in), 2 ~ (in), 3 + (out), 4 - (out)

## MB24S
designator U?
2A SURFACE MOUNT SCHOTTKY BRIDGE; SIZE: MBS; VALUE: MB24S
footprint MBS
pins: 1 ~ (in), 2 ~ (in), 3 + (out), 4 - (out)